# Altium schematic symbol library MCU_NXP_S08.SchLib: 189 symbols (part 3 of 4)
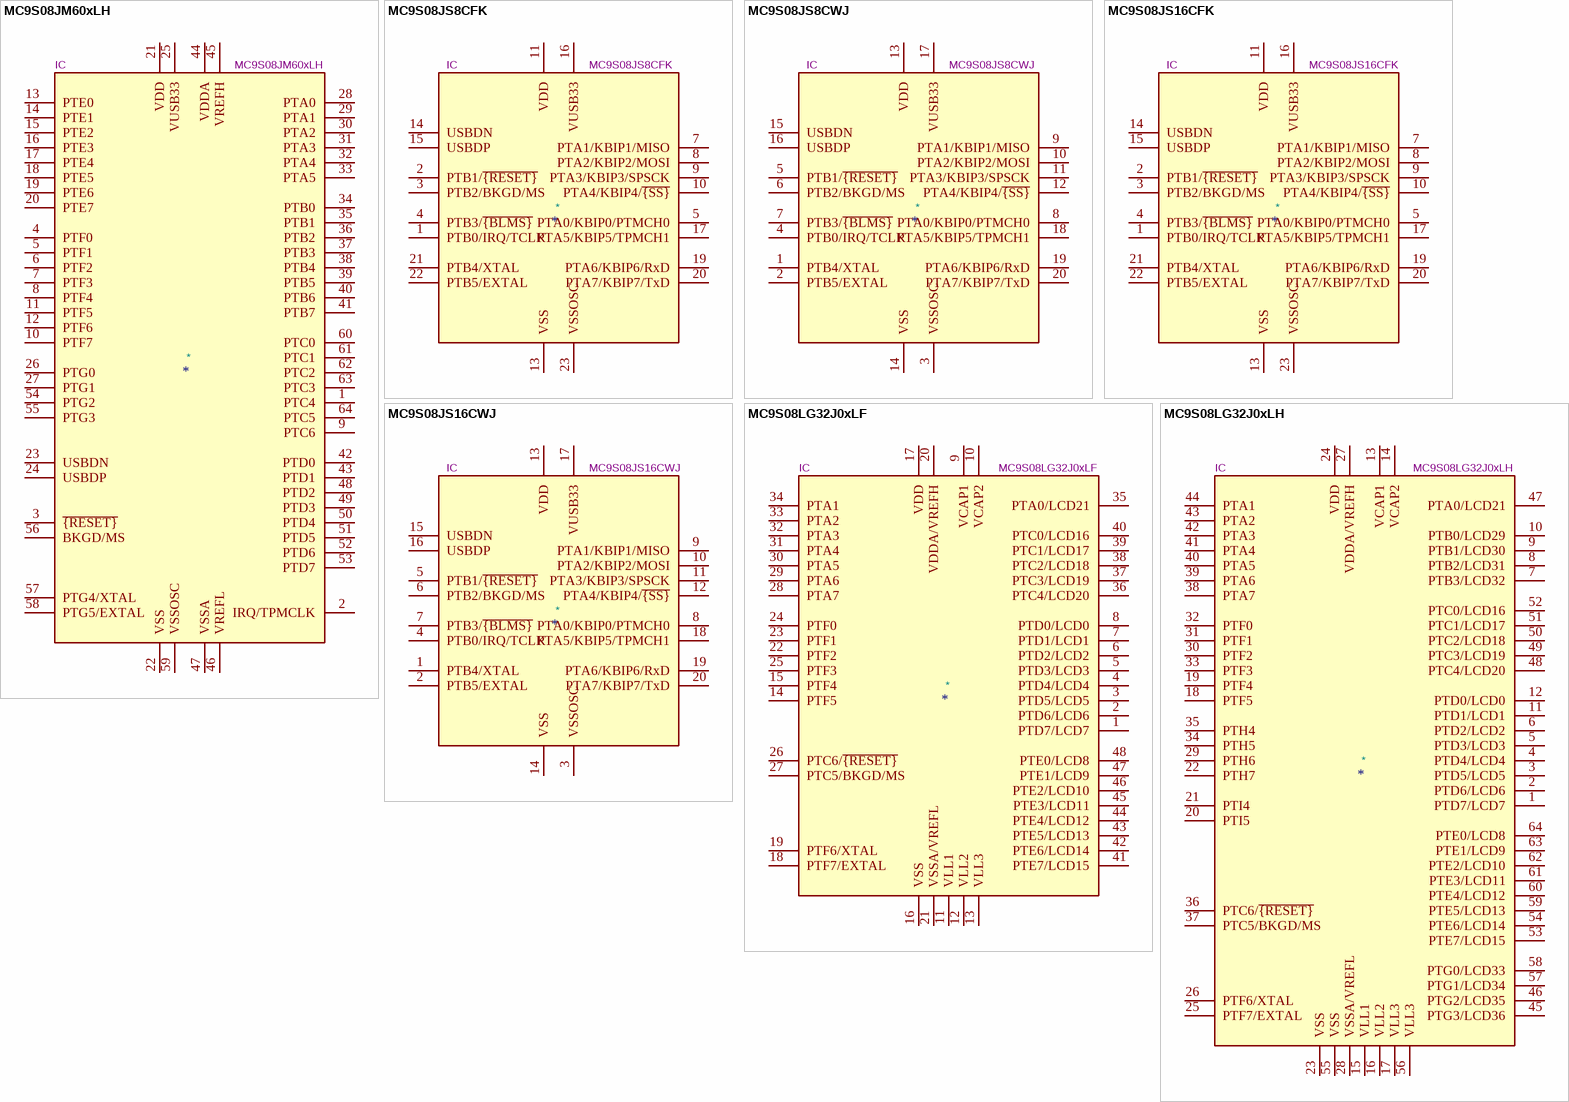
[diagram p21: symbols MC9S08JM60xLH to MC9S08LG32J0xLH]

## MC9S08LG32J0xLF
designator *  value MC9S08LG32J0xLF  Reference: IC
8-bit Segment LCD Microcontroller, S08 core, 32kB Flash, 1984B RAM, LQFP-48; ki_keywords: NXP S08 Microcontroller; ki_fp_filters: *LQFP*7x7mm*P0.5mm*; Footprint: Package_QFP:LQFP-48_7x7mm_P0.5mm; Datasheet: https://www.nxp.com/docs/en/data-sheet/MC9S08LG32.pdf; Description_: 8-bit Segment LCD Microcontroller, S08 core, 32kB Flash, 1984B RAM, LQFP-48
pins: 1 PTD7/LCD7, 2 PTD6/LCD6, 3 PTD5/LCD5, 4 PTD4/LCD4, 5 PTD3/LCD3, 6 PTD2/LCD2, 7 PTD1/LCD1, 8 PTD0/LCD0, 9 VCAP1, 10 VCAP2, 11 VLL1, 12 VLL2, 13 VLL3, 14 PTF5, 15 PTF4, 16 VSS, 17 VDD, 18 PTF7/EXTAL, 19 PTF6/XTAL, 20 VDDA/VREFH, 21 VSSA/VREFL, 22 PTF2, 23 PTF1, 24 PTF0, 25 PTF3, 26 PTC6/~{{RESET}}, 27 PTC5/BKGD/MS, 28 PTA7, 29 PTA6, 30 PTA5, 31 PTA4, 32 PTA3, 33 PTA2, 34 PTA1, 35 PTA0/LCD21, 36 PTC4/LCD20, 37 PTC3/LCD19, 38 PTC2/LCD18, 39 PTC1/LCD17, 40 PTC0/LCD16, 41 PTE7/LCD15, 42 PTE6/LCD14, 43 PTE5/LCD13, 44 PTE4/LCD12, 45 PTE3/LCD11, 46 PTE2/LCD10, 47 PTE1/LCD9, 48 PTE0/LCD8

## MC9S08LG32J0xLH
designator *  value MC9S08LG32J0xLH  Reference: IC
8-bit Segment LCD Microcontroller, S08 core, 32kB Flash, 1984B RAM, LQFP-64; ki_keywords: NXP S08 Microcontroller; ki_fp_filters: TQFP*10x10mm*P0.5mm*; Footprint: Package_QFP:TQFP-64_10x10mm_P0.5mm; Datasheet: https://www.nxp.com/files-static/microcontrollers/doc/ref_manual/MC9S08LG32RM.pdf; Description_: 8-bit Segment LCD Microcontroller, S08 core, 32kB Flash, 1984B RAM, LQFP-64
pins: 1 PTD7/LCD7, 2 PTD6/LCD6, 3 PTD5/LCD5, 4 PTD4/LCD4, 5 PTD3/LCD3, 6 PTD2/LCD2, 7 PTB3/LCD32, 8 PTB2/LCD31, 9 PTB1/LCD30, 10 PTB0/LCD29, 11 PTD1/LCD1, 12 PTD0/LCD0, 13 VCAP1, 14 VCAP2, 15 VLL1, 16 VLL2, 17 VLL3, 18 PTF5, 19 PTF4, 20 PTI5, 21 PTI4, 22 PTH7, 23 VSS, 24 VDD, 25 PTF7/EXTAL, 26 PTF6/XTAL, 27 VDDA/VREFH, 28 VSSA/VREFL, 29 PTH6, 30 PTF2, 31 PTF1, 32 PTF0, 33 PTF3, 34 PTH5, 35 PTH4, 36 PTC6/~{{RESET}}, 37 PTC5/BKGD/MS, 38 PTA7, 39 PTA6, 40 PTA5, 41 PTA4, 42 PTA3, 43 PTA2, 44 PTA1, 45 PTG3/LCD36, 46 PTG2/LCD35, 47 PTA0/LCD21, 48 PTC4/LCD20, 49 PTC3/LCD19, 50 PTC2/LCD18, 51 PTC1/LCD17, 52 PTC0/LCD16, 53 PTE7/LCD15, 54 PTE6/LCD14, 55 VSS, 56 VLL3, 57 PTG1/LCD34, 58 PTG0/LCD33, 59 PTE5/LCD13, 60 PTE4/LCD12, 61 PTE3/LCD11, 62 PTE2/LCD10, 63 PTE1/LCD9, 64 PTE0/LCD8

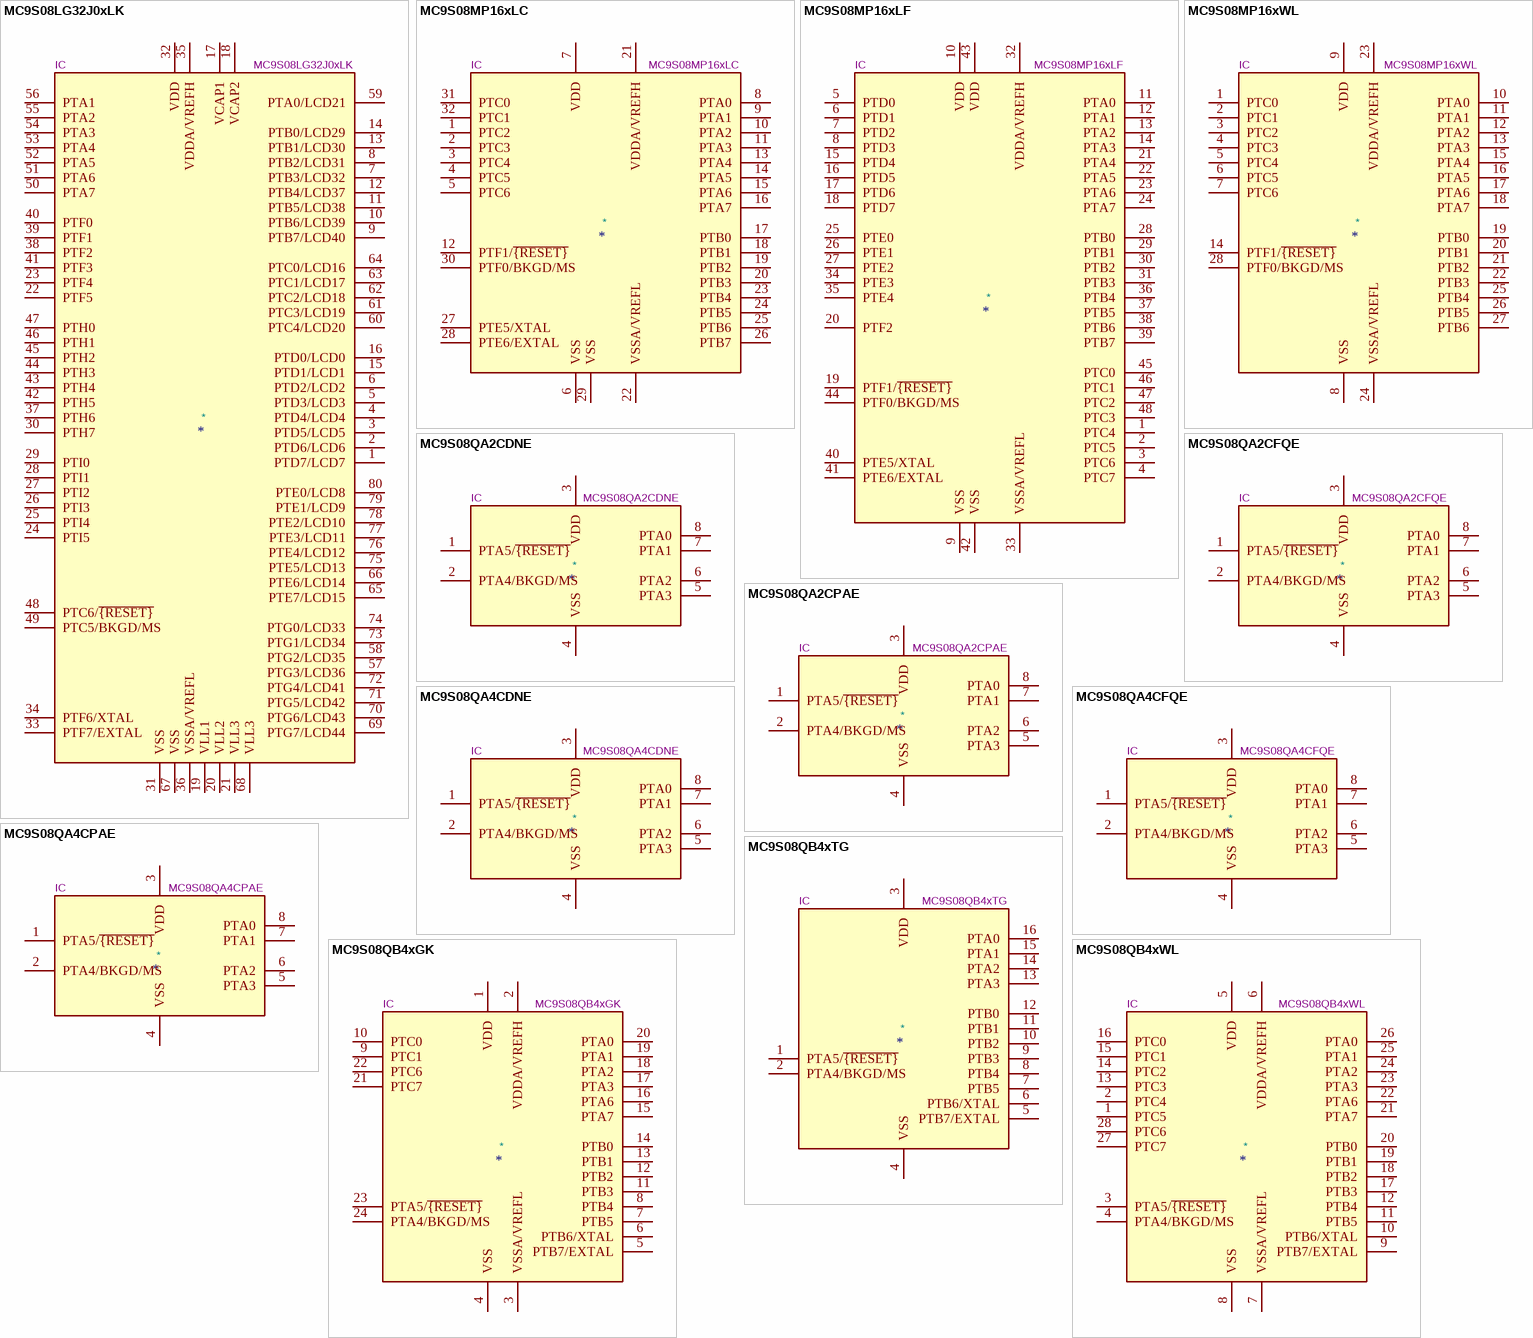
[diagram p14: symbols MC9S08LG32J0xLK to MC9S08QB4xWL]

## MC9S08LG32J0xLK
designator *  value MC9S08LG32J0xLK  Reference: IC
8-bit Segment LCD Microcontroller, S08 core, 32kB Flash, 1984B RAM, LQFP-80; ki_keywords: NXP S08 Microcontroller; ki_fp_filters: *LQFP*14x14mm*P0.65mm*; Footprint: Package_QFP:LQFP-80_14x14mm_P0.65mm; Datasheet: https://www.nxp.com/docs/en/data-sheet/MC9S08LG32.pdf; Description_: 8-bit Segment LCD Microcontroller, S08 core, 32kB Flash, 1984B RAM, LQFP-80
pins: 1 PTD7/LCD7, 2 PTD6/LCD6, 3 PTD5/LCD5, 4 PTD4/LCD4, 5 PTD3/LCD3, 6 PTD2/LCD2, 7 PTB3/LCD32, 8 PTB2/LCD31, 9 PTB7/LCD40, 10 PTB6/LCD39, 11 PTB5/LCD38, 12 PTB4/LCD37, 13 PTB1/LCD30, 14 PTB0/LCD29, 15 PTD1/LCD1, 16 PTD0/LCD0, 17 VCAP1, 18 VCAP2, 19 VLL1, 20 VLL2, 21 VLL3, 22 PTF5, 23 PTF4, 24 PTI5, 25 PTI4, 26 PTI3, 27 PTI2, 28 PTI1, 29 PTI0, 30 PTH7, 31 VSS, 32 VDD, 33 PTF7/EXTAL, 34 PTF6/XTAL, 35 VDDA/VREFH, 36 VSSA/VREFL, 37 PTH6, 38 PTF2, 39 PTF1, 40 PTF0, 41 PTF3, 42 PTH5, 43 PTH4, 44 PTH3, 45 PTH2, 46 PTH1, 47 PTH0, 48 PTC6/~{{RESET}}, 49 PTC5/BKGD/MS, 50 PTA7, 51 PTA6, 52 PTA5, 53 PTA4, 54 PTA3, 55 PTA2, 56 PTA1, 57 PTG3/LCD36, 58 PTG2/LCD35, 59 PTA0/LCD21, 60 PTC4/LCD20, 61 PTC3/LCD19, 62 PTC2/LCD18, 63 PTC1/LCD17, 64 PTC0/LCD16, 65 PTE7/LCD15, 66 PTE6/LCD14, 67 VSS, 68 VLL3, 69 PTG7/LCD44, 70 PTG6/LCD43, 71 PTG5/LCD42, 72 PTG4/LCD41, 73 PTG1/LCD34, 74 PTG0/LCD33, 75 PTE5/LCD13, 76 PTE4/LCD12, 77 PTE3/LCD11, 78 PTE2/LCD10, 79 PTE1/LCD9, 80 PTE0/LCD8

## MC9S08MP16xLC
designator *  value MC9S08MP16xLC  Reference: IC
8-bit General Purpose Microcontroller, S08 core, 16kB Flash, 1kB RAM, LQFP-32; ki_keywords: NXP S08 Microcontroller; ki_fp_filters: LQFP*7x7mm*P0.8mm*; Footprint: Package_QFP:LQFP-32_7x7mm_P0.8mm; Datasheet: https://www.nxp.com/docs/en/reference-manual/MC9S08MP16RM.pdf; Description_: 8-bit General Purpose Microcontroller, S08 core, 16kB Flash, 1kB RAM, LQFP-32
pins: 1 PTC2, 2 PTC3, 3 PTC4, 4 PTC5, 5 PTC6, 6 VSS, 7 VDD, 8 PTA0, 9 PTA1, 10 PTA2, 11 PTA3, 12 PTF1/~{{RESET}}, 13 PTA4, 14 PTA5, 15 PTA6, 16 PTA7, 17 PTB0, 18 PTB1, 19 PTB2, 20 PTB3, 21 VDDA/VREFH, 22 VSSA/VREFL, 23 PTB4, 24 PTB5, 25 PTB6, 26 PTB7, 27 PTE5/XTAL, 28 PTE6/EXTAL, 29 VSS, 30 PTF0/BKGD/MS, 31 PTC0, 32 PTC1

## MC9S08MP16xLF
designator *  value MC9S08MP16xLF  Reference: IC
8-bit General Purpose Microcontroller, S08 core, 16kB Flash, 1kB RAM, LQFP-48; ki_keywords: NXP S08 Microcontroller; ki_fp_filters: LQFP*7x7mm*P0.5mm*; Footprint: Package_QFP:LQFP-48_7x7mm_P0.5mm; Datasheet: https://www.nxp.com/docs/en/reference-manual/MC9S08MP16RM.pdf; Description_: 8-bit General Purpose Microcontroller, S08 core, 16kB Flash, 1kB RAM, LQFP-48
pins: 1 PTC4, 2 PTC5, 3 PTC6, 4 PTC7, 5 PTD0, 6 PTD1, 7 PTD2, 8 PTD3, 9 VSS, 10 VDD, 11 PTA0, 12 PTA1, 13 PTA2, 14 PTA3, 15 PTD4, 16 PTD5, 17 PTD6, 18 PTD7, 19 PTF1/~{{RESET}}, 20 PTF2, 21 PTA4, 22 PTA5, 23 PTA6, 24 PTA7, 25 PTE0, 26 PTE1, 27 PTE2, 28 PTB0, 29 PTB1, 30 PTB2, 31 PTB3, 32 VDDA/VREFH, 33 VSSA/VREFL, 34 PTE3, 35 PTE4, 36 PTB4, 37 PTB5, 38 PTB6, 39 PTB7, 40 PTE5/XTAL, 41 PTE6/EXTAL, 42 VSS, 43 VDD, 44 PTF0/BKGD/MS, 45 PTC0, 46 PTC1, 47 PTC2, 48 PTC3

## MC9S08MP16xWL
designator *  value MC9S08MP16xWL  Reference: IC
8-bit General Purpose Microcontroller, S08 core, 16kB Flash, 1kB RAM, SOIC-28; ki_keywords: NXP S08 Microcontroller; ki_fp_filters: SOIC*7.5x17.9mm*P1.27mm*; Footprint: Package_SO:SOIC-28W_7.5x17.9mm_P1.27mm; Datasheet: https://www.nxp.com/docs/en/reference-manual/MC9S08MP16RM.pdf; Description_: 8-bit General Purpose Microcontroller, S08 core, 16kB Flash, 1kB RAM, SOIC-28
pins: 1 PTC0, 2 PTC1, 3 PTC2, 4 PTC3, 5 PTC4, 6 PTC5, 7 PTC6, 8 VSS, 9 VDD, 10 PTA0, 11 PTA1, 12 PTA2, 13 PTA3, 14 PTF1/~{{RESET}}, 15 PTA4, 16 PTA5, 17 PTA6, 18 PTA7, 19 PTB0, 20 PTB1, 21 PTB2, 22 PTB3, 23 VDDA/VREFH, 24 VSSA/VREFL, 25 PTB4, 26 PTB5, 27 PTB6, 28 PTF0/BKGD/MS

## MC9S08QA2CDNE
designator *  value MC9S08QA2CDNE  Reference: IC
8-bit Small Package Microcontroller, S08 core, 2kB Flash, 160B RAM, SOIC-8; ki_keywords: NXP S08 Microcontroller; ki_fp_filters: SOIC*3.9x4.9mm*P1.27mm*; Footprint: Package_SO:SOIC-8_3.9x4.9mm_P1.27mm; Datasheet: https://www.nxp.com/docs/en/reference-manual/MC9S08QA4RM.pdf; Description_: 8-bit Small Package Microcontroller, S08 core, 2kB Flash, 160B RAM, SOIC-8
pins: 1 PTA5/~{{RESET}}, 2 PTA4/BKGD/MS, 3 VDD, 4 VSS, 5 PTA3, 6 PTA2, 7 PTA1, 8 PTA0

## MC9S08QA2CFQE
designator *  value MC9S08QA2CFQE  Reference: IC
8-bit Small Package Microcontroller, S08 core, 2kB Flash, 160B RAM, DFN-8; ki_keywords: NXP S08 Microcontroller; ki_fp_filters: DFN*4x4mm*P0.8mm*; Footprint: Package_DFN_QFN:DFN-8-1EP_4x4mm_P0.8mm_EP2.5x3.6mm; Datasheet: https://www.nxp.com/docs/en/reference-manual/MC9S08QA4RM.pdf; Description_: 8-bit Small Package Microcontroller, S08 core, 2kB Flash, 160B RAM, DFN-8
pins: 1 PTA5/~{{RESET}}, 2 PTA4/BKGD/MS, 3 VDD, 4 VSS, 5 PTA3, 6 PTA2, 7 PTA1, 8 PTA0

## MC9S08QA2CPAE
designator *  value MC9S08QA2CPAE  Reference: IC
8-bit Small Package Microcontroller, S08 core, 2kB Flash, 160B RAM, DIP-8; ki_keywords: NXP S08 Microcontroller; ki_fp_filters: DIP*7.62mm*; Footprint: Package_DIP:DIP-8_W7.62mm; Datasheet: https://www.nxp.com/docs/en/reference-manual/MC9S08QA4RM.pdf; Description_: 8-bit Small Package Microcontroller, S08 core, 2kB Flash, 160B RAM, DIP-8
pins: 1 PTA5/~{{RESET}}, 2 PTA4/BKGD/MS, 3 VDD, 4 VSS, 5 PTA3, 6 PTA2, 7 PTA1, 8 PTA0

## MC9S08QA4CDNE
designator *  value MC9S08QA4CDNE  Reference: IC
8-bit Small Package Microcontroller, S08 core, 4kB Flash, 256B RAM, SOIC-8; ki_keywords: NXP S08 Microcontroller; ki_fp_filters: SOIC*3.9x4.9mm*P1.27mm*; Footprint: Package_SO:SOIC-8_3.9x4.9mm_P1.27mm; Datasheet: https://www.nxp.com/docs/en/reference-manual/MC9S08QA4RM.pdf; Description_: 8-bit Small Package Microcontroller, S08 core, 4kB Flash, 256B RAM, SOIC-8
pins: 1 PTA5/~{{RESET}}, 2 PTA4/BKGD/MS, 3 VDD, 4 VSS, 5 PTA3, 6 PTA2, 7 PTA1, 8 PTA0

## MC9S08QA4CFQE
designator *  value MC9S08QA4CFQE  Reference: IC
8-bit Small Package Microcontroller, S08 core, 4kB Flash, 256B RAM, DFN-8; ki_keywords: NXP S08 Microcontroller; ki_fp_filters: DFN*4x4mm*P0.8mm*; Footprint: Package_DFN_QFN:DFN-8-1EP_4x4mm_P0.8mm_EP2.5x3.6mm; Datasheet: https://www.nxp.com/docs/en/reference-manual/MC9S08QA4RM.pdf; Description_: 8-bit Small Package Microcontroller, S08 core, 4kB Flash, 256B RAM, DFN-8
pins: 1 PTA5/~{{RESET}}, 2 PTA4/BKGD/MS, 3 VDD, 4 VSS, 5 PTA3, 6 PTA2, 7 PTA1, 8 PTA0

## MC9S08QA4CPAE
designator *  value MC9S08QA4CPAE  Reference: IC
8-bit Small Package Microcontroller, S08 core, 4kB Flash, 256B RAM, DIP-8; ki_keywords: NXP S08 Microcontroller; ki_fp_filters: DIP*7.62mm*; Footprint: Package_DIP:DIP-8_W7.62mm; Datasheet: https://www.nxp.com/docs/en/reference-manual/MC9S08QA4RM.pdf; Description_: 8-bit Small Package Microcontroller, S08 core, 4kB Flash, 256B RAM, DIP-8
pins: 1 PTA5/~{{RESET}}, 2 PTA4/BKGD/MS, 3 VDD, 4 VSS, 5 PTA3, 6 PTA2, 7 PTA1, 8 PTA0

## MC9S08QB4xGK
designator *  value MC9S08QB4xGK  Reference: IC
8-bit General Purpose Microcontroller, S08 core, 4kB Flash, 256B RAM, QFN-24; ki_keywords: NXP S08 Microcontroller; ki_fp_filters: QFN*1EP*5x5mm*P0.65mm*; Footprint: Package_DFN_QFN:QFN-24-1EP_5x5mm_P0.65mm_EP3.6x3.6mm; Datasheet: https://www.nxp.com/docs/en/reference-manual/MC9S08QB8RM.pdf; Description_: 8-bit General Purpose Microcontroller, S08 core, 4kB Flash, 256B RAM, QFN-24
pins: 1 VDD, 2 VDDA/VREFH, 3 VSSA/VREFL, 4 VSS, 5 PTB7/EXTAL, 6 PTB6/XTAL, 7 PTB5, 8 PTB4, 9 PTC1, 10 PTC0, 11 PTB3, 12 PTB2, 13 PTB1, 14 PTB0, 15 PTA7, 16 PTA6, 17 PTA3, 18 PTA2, 19 PTA1, 20 PTA0, 21 PTC7, 22 PTC6, 23 PTA5/~{{RESET}}, 24 PTA4/BKGD/MS

## MC9S08QB4xTG
designator *  value MC9S08QB4xTG  Reference: IC
8-bit General Purpose Microcontroller, S08 core, 4kB Flash, 256B RAM, TSSOP-16; ki_keywords: NXP S08 Microcontroller; ki_fp_filters: TSSOP*4.4x5mm*P0.65mm*; Footprint: Package_SO:TSSOP-16_4.4x5mm_P0.65mm; Datasheet: https://www.nxp.com/docs/en/reference-manual/MC9S08QB8RM.pdf; Description_: 8-bit General Purpose Microcontroller, S08 core, 4kB Flash, 256B RAM, TSSOP-16
pins: 1 PTA5/~{{RESET}}, 2 PTA4/BKGD/MS, 3 VDD, 4 VSS, 5 PTB7/EXTAL, 6 PTB6/XTAL, 7 PTB5, 8 PTB4, 9 PTB3, 10 PTB2, 11 PTB1, 12 PTB0, 13 PTA3, 14 PTA2, 15 PTA1, 16 PTA0

## MC9S08QB4xWL
designator *  value MC9S08QB4xWL  Reference: IC
8-bit General Purpose Microcontroller, S08 core, 4kB Flash, 256B RAM, SOIC-28; ki_keywords: NXP S08 Microcontroller; ki_fp_filters: SOIC*7.5x17.9mm*P1.27mm*; Footprint: Package_SO:SOIC-28W_7.5x17.9mm_P1.27mm; Datasheet: https://www.nxp.com/docs/en/reference-manual/MC9S08QB8RM.pdf; Description_: 8-bit General Purpose Microcontroller, S08 core, 4kB Flash, 256B RAM, SOIC-28
pins: 1 PTC5, 2 PTC4, 3 PTA5/~{{RESET}}, 4 PTA4/BKGD/MS, 5 VDD, 6 VDDA/VREFH, 7 VSSA/VREFL, 8 VSS, 9 PTB7/EXTAL, 10 PTB6/XTAL, 11 PTB5, 12 PTB4, 13 PTC3, 14 PTC2, 15 PTC1, 16 PTC0, 17 PTB3, 18 PTB2, 19 PTB1, 20 PTB0, 21 PTA7, 22 PTA6, 23 PTA3, 24 PTA2, 25 PTA1, 26 PTA0, 27 PTC7, 28 PTC6

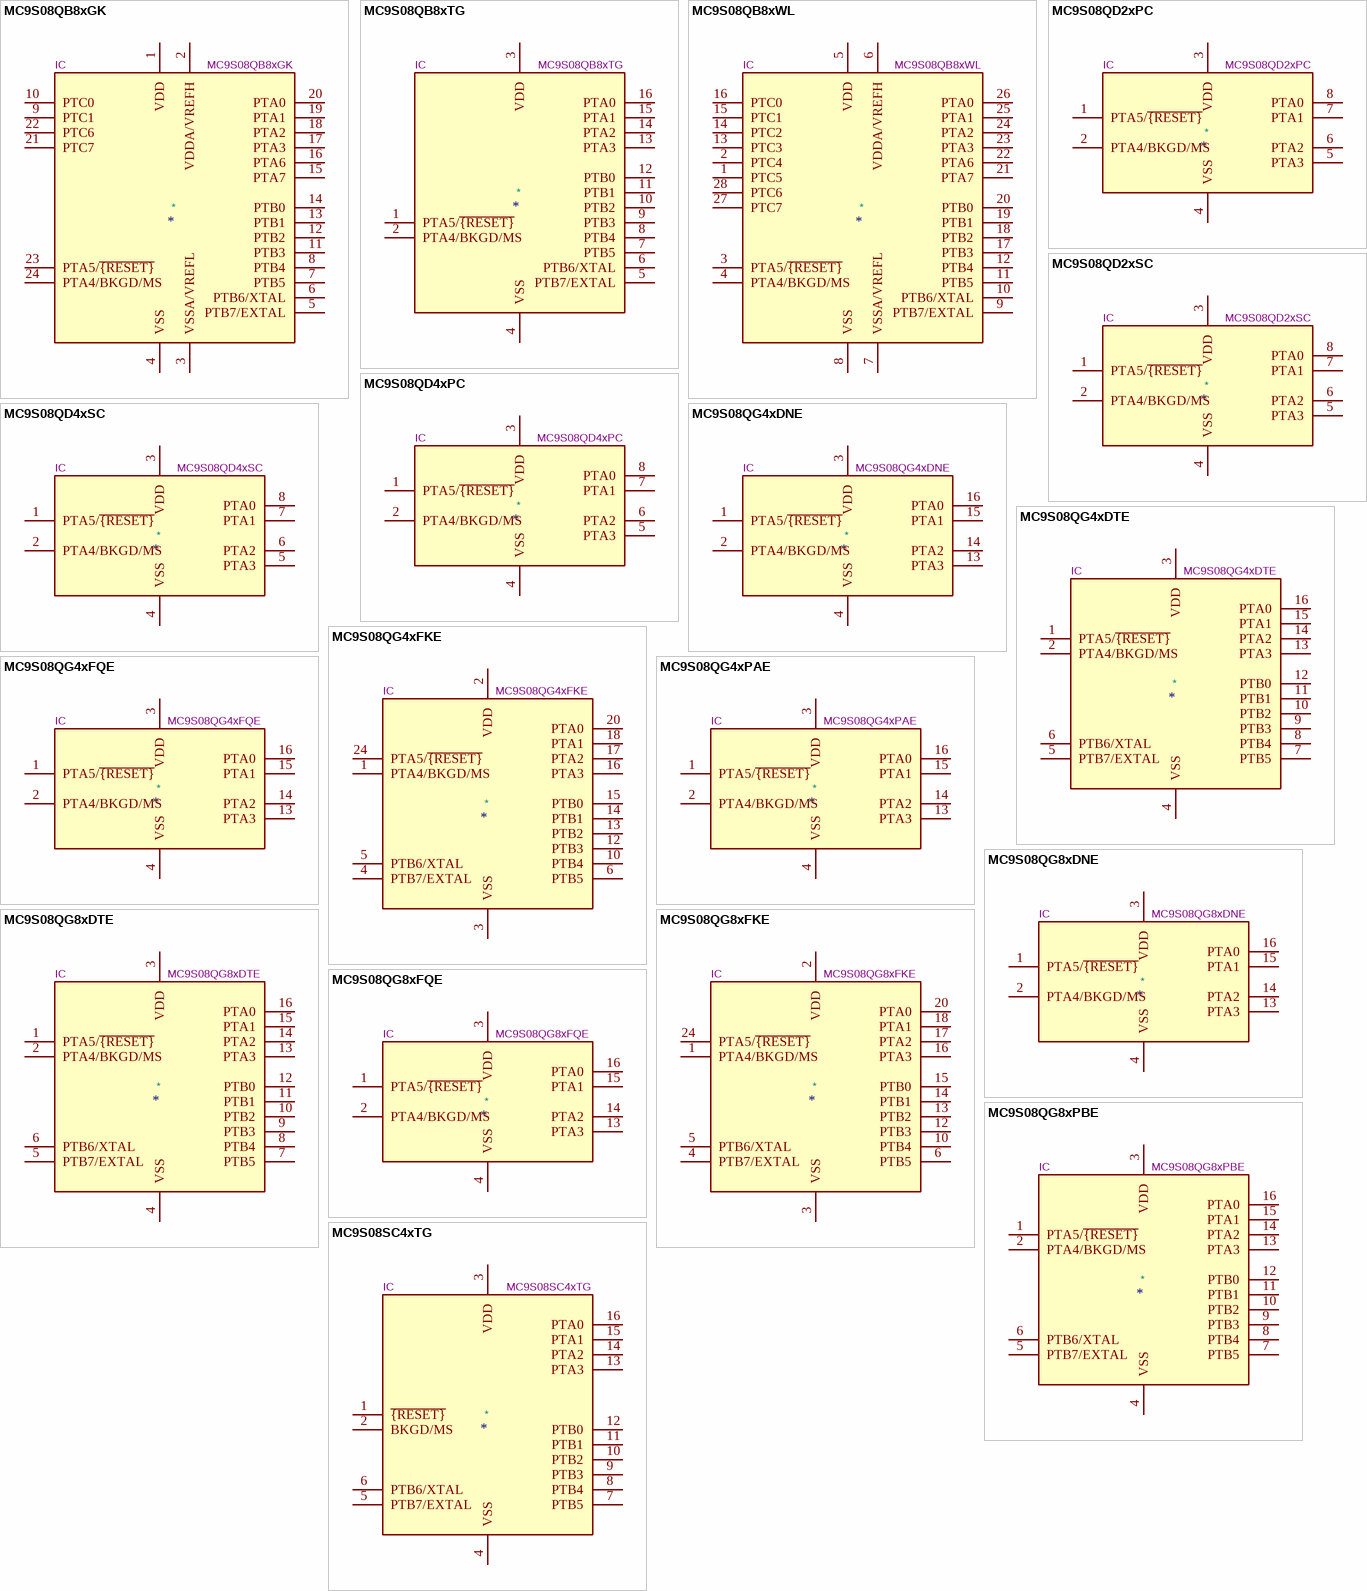
[diagram p15: symbols MC9S08QB8xGK to MC9S08SC4xTG]

## MC9S08QB8xGK
designator *  value MC9S08QB8xGK  Reference: IC
8-bit General Purpose Microcontroller, S08 core, 8kB Flash, 512B RAM, QFN-24; ki_keywords: NXP S08 Microcontroller; ki_fp_filters: QFN*1EP*5x5mm*P0.65mm*; Footprint: Package_DFN_QFN:QFN-24-1EP_5x5mm_P0.65mm_EP3.6x3.6mm; Datasheet: https://www.nxp.com/docs/en/reference-manual/MC9S08QB8RM.pdf; Description_: 8-bit General Purpose Microcontroller, S08 core, 8kB Flash, 512B RAM, QFN-24
pins: 1 VDD, 2 VDDA/VREFH, 3 VSSA/VREFL, 4 VSS, 5 PTB7/EXTAL, 6 PTB6/XTAL, 7 PTB5, 8 PTB4, 9 PTC1, 10 PTC0, 11 PTB3, 12 PTB2, 13 PTB1, 14 PTB0, 15 PTA7, 16 PTA6, 17 PTA3, 18 PTA2, 19 PTA1, 20 PTA0, 21 PTC7, 22 PTC6, 23 PTA5/~{{RESET}}, 24 PTA4/BKGD/MS

## MC9S08QB8xTG
designator *  value MC9S08QB8xTG  Reference: IC
8-bit General Purpose Microcontroller, S08 core, 8kB Flash, 512B RAM, TSSOP-16; ki_keywords: NXP S08 Microcontroller; ki_fp_filters: TSSOP*4.4x5mm*P0.65mm*; Footprint: Package_SO:TSSOP-16_4.4x5mm_P0.65mm; Datasheet: https://www.nxp.com/docs/en/reference-manual/MC9S08QB8RM.pdf; Description_: 8-bit General Purpose Microcontroller, S08 core, 8kB Flash, 512B RAM, TSSOP-16
pins: 1 PTA5/~{{RESET}}, 2 PTA4/BKGD/MS, 3 VDD, 4 VSS, 5 PTB7/EXTAL, 6 PTB6/XTAL, 7 PTB5, 8 PTB4, 9 PTB3, 10 PTB2, 11 PTB1, 12 PTB0, 13 PTA3, 14 PTA2, 15 PTA1, 16 PTA0

## MC9S08QB8xWL
designator *  value MC9S08QB8xWL  Reference: IC
8-bit General Purpose Microcontroller, S08 core, 8kB Flash, 512B RAM, SOIC-28; ki_keywords: NXP S08 Microcontroller; ki_fp_filters: SOIC*7.5x17.9mm*P1.27mm*; Footprint: Package_SO:SOIC-28W_7.5x17.9mm_P1.27mm; Datasheet: https://www.nxp.com/docs/en/reference-manual/MC9S08QB8RM.pdf; Description_: 8-bit General Purpose Microcontroller, S08 core, 8kB Flash, 512B RAM, SOIC-28
pins: 1 PTC5, 2 PTC4, 3 PTA5/~{{RESET}}, 4 PTA4/BKGD/MS, 5 VDD, 6 VDDA/VREFH, 7 VSSA/VREFL, 8 VSS, 9 PTB7/EXTAL, 10 PTB6/XTAL, 11 PTB5, 12 PTB4, 13 PTC3, 14 PTC2, 15 PTC1, 16 PTC0, 17 PTB3, 18 PTB2, 19 PTB1, 20 PTB0, 21 PTA7, 22 PTA6, 23 PTA3, 24 PTA2, 25 PTA1, 26 PTA0, 27 PTC7, 28 PTC6

## MC9S08QD2xPC
designator *  value MC9S08QD2xPC  Reference: IC
8-bit Small Package Microcontroller, S08 core, 2kB Flash, 128B RAM, DIP-8; ki_keywords: NXP S08 Microcontroller; ki_fp_filters: DIP*7.62mm*; Footprint: Package_DIP:DIP-8_W7.62mm; Datasheet: https://www.nxp.com/docs/en/data-sheet/MC9S08QD4.pdf; Description_: 8-bit Small Package Microcontroller, S08 core, 2kB Flash, 128B RAM, DIP-8
pins: 1 PTA5/~{{RESET}}, 2 PTA4/BKGD/MS, 3 VDD, 4 VSS, 5 PTA3, 6 PTA2, 7 PTA1, 8 PTA0

## MC9S08QD2xSC
designator *  value MC9S08QD2xSC  Reference: IC
8-bit Small Package Microcontroller, S08 core, 2kB Flash, 128B RAM, SOIC-8; ki_keywords: NXP S08 Microcontroller; ki_fp_filters: SOIC*3.9x4.9mm*P1.27mm*; Footprint: Package_SO:SOIC-8_3.9x4.9mm_P1.27mm; Datasheet: https://www.nxp.com/docs/en/data-sheet/MC9S08QD4.pdf; Description_: 8-bit Small Package Microcontroller, S08 core, 2kB Flash, 128B RAM, SOIC-8
pins: 1 PTA5/~{{RESET}}, 2 PTA4/BKGD/MS, 3 VDD, 4 VSS, 5 PTA3, 6 PTA2, 7 PTA1, 8 PTA0

## MC9S08QD4xPC
designator *  value MC9S08QD4xPC  Reference: IC
8-bit Small Package Microcontroller, S08 core, 4kB Flash, 256B RAM, DIP-8; ki_keywords: NXP S08 Microcontroller; ki_fp_filters: DIP*7.62mm*; Footprint: Package_DIP:DIP-8_W7.62mm; Datasheet: https://www.nxp.com/docs/en/data-sheet/MC9S08QD4.pdf; Description_: 8-bit Small Package Microcontroller, S08 core, 4kB Flash, 256B RAM, DIP-8
pins: 1 PTA5/~{{RESET}}, 2 PTA4/BKGD/MS, 3 VDD, 4 VSS, 5 PTA3, 6 PTA2, 7 PTA1, 8 PTA0

## MC9S08QD4xSC
designator *  value MC9S08QD4xSC  Reference: IC
8-bit Small Package Microcontroller, S08 core, 4kB Flash, 256B RAM, SOIC-8; ki_keywords: NXP S08 Microcontroller; ki_fp_filters: SOIC*3.9x4.9mm*P1.27mm*; Footprint: Package_SO:SOIC-8_3.9x4.9mm_P1.27mm; Datasheet: https://www.nxp.com/docs/en/data-sheet/MC9S08QD4.pdf; Description_: 8-bit Small Package Microcontroller, S08 core, 4kB Flash, 256B RAM, SOIC-8
pins: 1 PTA5/~{{RESET}}, 2 PTA4/BKGD/MS, 3 VDD, 4 VSS, 5 PTA3, 6 PTA2, 7 PTA1, 8 PTA0

## MC9S08QG4xDNE
designator *  value MC9S08QG4xDNE  Reference: IC
8-bit Small Package Microcontroller, S08 core, 4kB Flash, 256B RAM, SOIC-8; ki_keywords: NXP S08 Microcontroller; ki_fp_filters: SOIC*3.9x4.9mm*P1.27mm*; Footprint: Package_SO:SOIC-8_3.9x4.9mm_P1.27mm; Datasheet: https://www.nxp.com/docs/en/data-sheet/MC9S08QG8.pdf; Description_: 8-bit Small Package Microcontroller, S08 core, 4kB Flash, 256B RAM, SOIC-8
pins: 1 PTA5/~{{RESET}}, 2 PTA4/BKGD/MS, 3 VDD, 4 VSS, 13 PTA3, 14 PTA2, 15 PTA1, 16 PTA0

## MC9S08QG4xDTE
designator *  value MC9S08QG4xDTE  Reference: IC
8-bit Small Package Microcontroller, S08 core, 4kB Flash, 256B RAM, TSSOP-16; ki_keywords: NXP S08 Microcontroller; ki_fp_filters: TSSOP*4.4x5mm*P0.65mm*; Footprint: Package_SO:TSSOP-16_4.4x5mm_P0.65mm; Datasheet: https://www.nxp.com/docs/en/data-sheet/MC9S08QG8.pdf; Description_: 8-bit Small Package Microcontroller, S08 core, 4kB Flash, 256B RAM, TSSOP-16
pins: 1 PTA5/~{{RESET}}, 2 PTA4/BKGD/MS, 3 VDD, 4 VSS, 5 PTB7/EXTAL, 6 PTB6/XTAL, 7 PTB5, 8 PTB4, 9 PTB3, 10 PTB2, 11 PTB1, 12 PTB0, 13 PTA3, 14 PTA2, 15 PTA1, 16 PTA0

## MC9S08QG4xFKE
designator *  value MC9S08QG4xFKE  Reference: IC
8-bit Small Package Microcontroller, S08 core, 4kB Flash, 256B RAM, QFN-24; ki_keywords: NXP S08 Microcontroller; ki_fp_filters: QFN*4x4mm*P0.5mm*; Footprint: Package_DFN_QFN:QFN-24-1EP_4x4mm_P0.5mm_EP2.6x2.6mm; Datasheet: https://www.nxp.com/docs/en/data-sheet/MC9S08QG8.pdf; Description_: 8-bit Small Package Microcontroller, S08 core, 4kB Flash, 256B RAM, QFN-24
pins: 1 PTA4/BKGD/MS, 2 VDD, 3 VSS, 4 PTB7/EXTAL, 5 PTB6/XTAL, 6 PTB5, 10 PTB4, 12 PTB3, 13 PTB2, 14 PTB1, 15 PTB0, 16 PTA3, 17 PTA2, 18 PTA1, 20 PTA0, 24 PTA5/~{{RESET}}

## MC9S08QG4xFQE
designator *  value MC9S08QG4xFQE  Reference: IC
8-bit Small Package Microcontroller, S08 core, 4kB Flash, 256B RAM, DFN-8; ki_keywords: NXP S08 Microcontroller; ki_fp_filters: DFN*4x4mm*P0.8mm*; Footprint: Package_DFN_QFN:DFN-8-1EP_4x4mm_P0.8mm_EP2.5x3.6mm; Datasheet: https://www.nxp.com/docs/en/data-sheet/MC9S08QG8.pdf; Description_: 8-bit Small Package Microcontroller, S08 core, 4kB Flash, 256B RAM, DFN-8
pins: 1 PTA5/~{{RESET}}, 2 PTA4/BKGD/MS, 3 VDD, 4 VSS, 13 PTA3, 14 PTA2, 15 PTA1, 16 PTA0

## MC9S08QG4xPAE
designator *  value MC9S08QG4xPAE  Reference: IC
8-bit Small Package Microcontroller, S08 core, 4kB Flash, 256B RAM, DIP-8; ki_keywords: NXP S08 Microcontroller; ki_fp_filters: DIP*7.62mm*; Footprint: Package_DIP:DIP-8_W7.62mm; Datasheet: https://www.nxp.com/docs/en/data-sheet/MC9S08QG8.pdf; Description_: 8-bit Small Package Microcontroller, S08 core, 4kB Flash, 256B RAM, DIP-8
pins: 1 PTA5/~{{RESET}}, 2 PTA4/BKGD/MS, 3 VDD, 4 VSS, 13 PTA3, 14 PTA2, 15 PTA1, 16 PTA0

## MC9S08QG8xDNE
designator *  value MC9S08QG8xDNE  Reference: IC
8-bit Small Package Microcontroller, S08 core, 8kB Flash, 512B RAM, SOIC-8; ki_keywords: NXP S08 Microcontroller; ki_fp_filters: SOIC*3.9x4.9mm*P1.27mm*; Footprint: Package_SO:SOIC-8_3.9x4.9mm_P1.27mm; Datasheet: https://www.nxp.com/docs/en/data-sheet/MC9S08QG8.pdf; Description_: 8-bit Small Package Microcontroller, S08 core, 8kB Flash, 512B RAM, SOIC-8
pins: 1 PTA5/~{{RESET}}, 2 PTA4/BKGD/MS, 3 VDD, 4 VSS, 13 PTA3, 14 PTA2, 15 PTA1, 16 PTA0

## MC9S08QG8xDTE
designator *  value MC9S08QG8xDTE  Reference: IC
8-bit Small Package Microcontroller, S08 core, 8kB Flash, 512B RAM, TSSOP-16; ki_keywords: NXP S08 Microcontroller; ki_fp_filters: TSSOP*4.4x5mm*P0.65mm*; Footprint: Package_SO:TSSOP-16_4.4x5mm_P0.65mm; Datasheet: https://www.nxp.com/docs/en/data-sheet/MC9S08QG8.pdf; Description_: 8-bit Small Package Microcontroller, S08 core, 8kB Flash, 512B RAM, TSSOP-16
pins: 1 PTA5/~{{RESET}}, 2 PTA4/BKGD/MS, 3 VDD, 4 VSS, 5 PTB7/EXTAL, 6 PTB6/XTAL, 7 PTB5, 8 PTB4, 9 PTB3, 10 PTB2, 11 PTB1, 12 PTB0, 13 PTA3, 14 PTA2, 15 PTA1, 16 PTA0

## MC9S08QG8xFKE
designator *  value MC9S08QG8xFKE  Reference: IC
8-bit Small Package Microcontroller, S08 core, 8kB Flash, 512B RAM, QFN-24; ki_keywords: NXP S08 Microcontroller; ki_fp_filters: QFN*4x4mm*P0.5mm*; Footprint: Package_DFN_QFN:QFN-24-1EP_4x4mm_P0.5mm_EP2.6x2.6mm; Datasheet: https://www.nxp.com/docs/en/data-sheet/MC9S08QG8.pdf; Description_: 8-bit Small Package Microcontroller, S08 core, 8kB Flash, 512B RAM, QFN-24
pins: 1 PTA4/BKGD/MS, 2 VDD, 3 VSS, 4 PTB7/EXTAL, 5 PTB6/XTAL, 6 PTB5, 10 PTB4, 12 PTB3, 13 PTB2, 14 PTB1, 15 PTB0, 16 PTA3, 17 PTA2, 18 PTA1, 20 PTA0, 24 PTA5/~{{RESET}}

## MC9S08QG8xFQE
designator *  value MC9S08QG8xFQE  Reference: IC
8-bit Small Package Microcontroller, S08 core, 8kB Flash, 512B RAM, DFN-8; ki_keywords: NXP S08 Microcontroller; ki_fp_filters: DFN*4x4mm*P0.8mm*; Footprint: Package_DFN_QFN:DFN-8-1EP_4x4mm_P0.8mm_EP2.5x3.6mm; Datasheet: https://www.nxp.com/docs/en/data-sheet/MC9S08QG8.pdf; Description_: 8-bit Small Package Microcontroller, S08 core, 8kB Flash, 512B RAM, DFN-8
pins: 1 PTA5/~{{RESET}}, 2 PTA4/BKGD/MS, 3 VDD, 4 VSS, 13 PTA3, 14 PTA2, 15 PTA1, 16 PTA0

## MC9S08QG8xPBE
designator *  value MC9S08QG8xPBE  Reference: IC
8-bit Small Package Microcontroller, S08 core, 8kB Flash, 512B RAM, DIP-16; ki_keywords: NXP S08 Microcontroller; ki_fp_filters: DIP*7.62mm*; Footprint: Package_DIP:DIP-16_W7.62mm; Datasheet: https://www.nxp.com/docs/en/data-sheet/MC9S08QG8.pdf; Description_: 8-bit Small Package Microcontroller, S08 core, 8kB Flash, 512B RAM, DIP-16
pins: 1 PTA5/~{{RESET}}, 2 PTA4/BKGD/MS, 3 VDD, 4 VSS, 5 PTB7/EXTAL, 6 PTB6/XTAL, 7 PTB5, 8 PTB4, 9 PTB3, 10 PTB2, 11 PTB1, 12 PTB0, 13 PTA3, 14 PTA2, 15 PTA1, 16 PTA0

## MC9S08SC4xTG
designator *  value MC9S08SC4xTG  Reference: IC
8-bit Small Package Microcontroller, S08 core, 4kB Flash, 256B RAM, TSSOP-16; ki_keywords: NXP S08 Microcontroller; ki_fp_filters: TSSOP*4.4x5mm*P0.65mm*; Footprint: Package_SO:TSSOP-16_4.4x5mm_P0.65mm; Datasheet: https://www.nxp.com/docs/en/data-sheet/MC9S08SC4.pdf; Description_: 8-bit Small Package Microcontroller, S08 core, 4kB Flash, 256B RAM, TSSOP-16
pins: 1 ~{{RESET}}, 2 BKGD/MS, 3 VDD, 4 VSS, 5 PTB7/EXTAL, 6 PTB6/XTAL, 7 PTB5, 8 PTB4, 9 PTB3, 10 PTB2, 11 PTB1, 12 PTB0, 13 PTA3, 14 PTA2, 15 PTA1, 16 PTA0

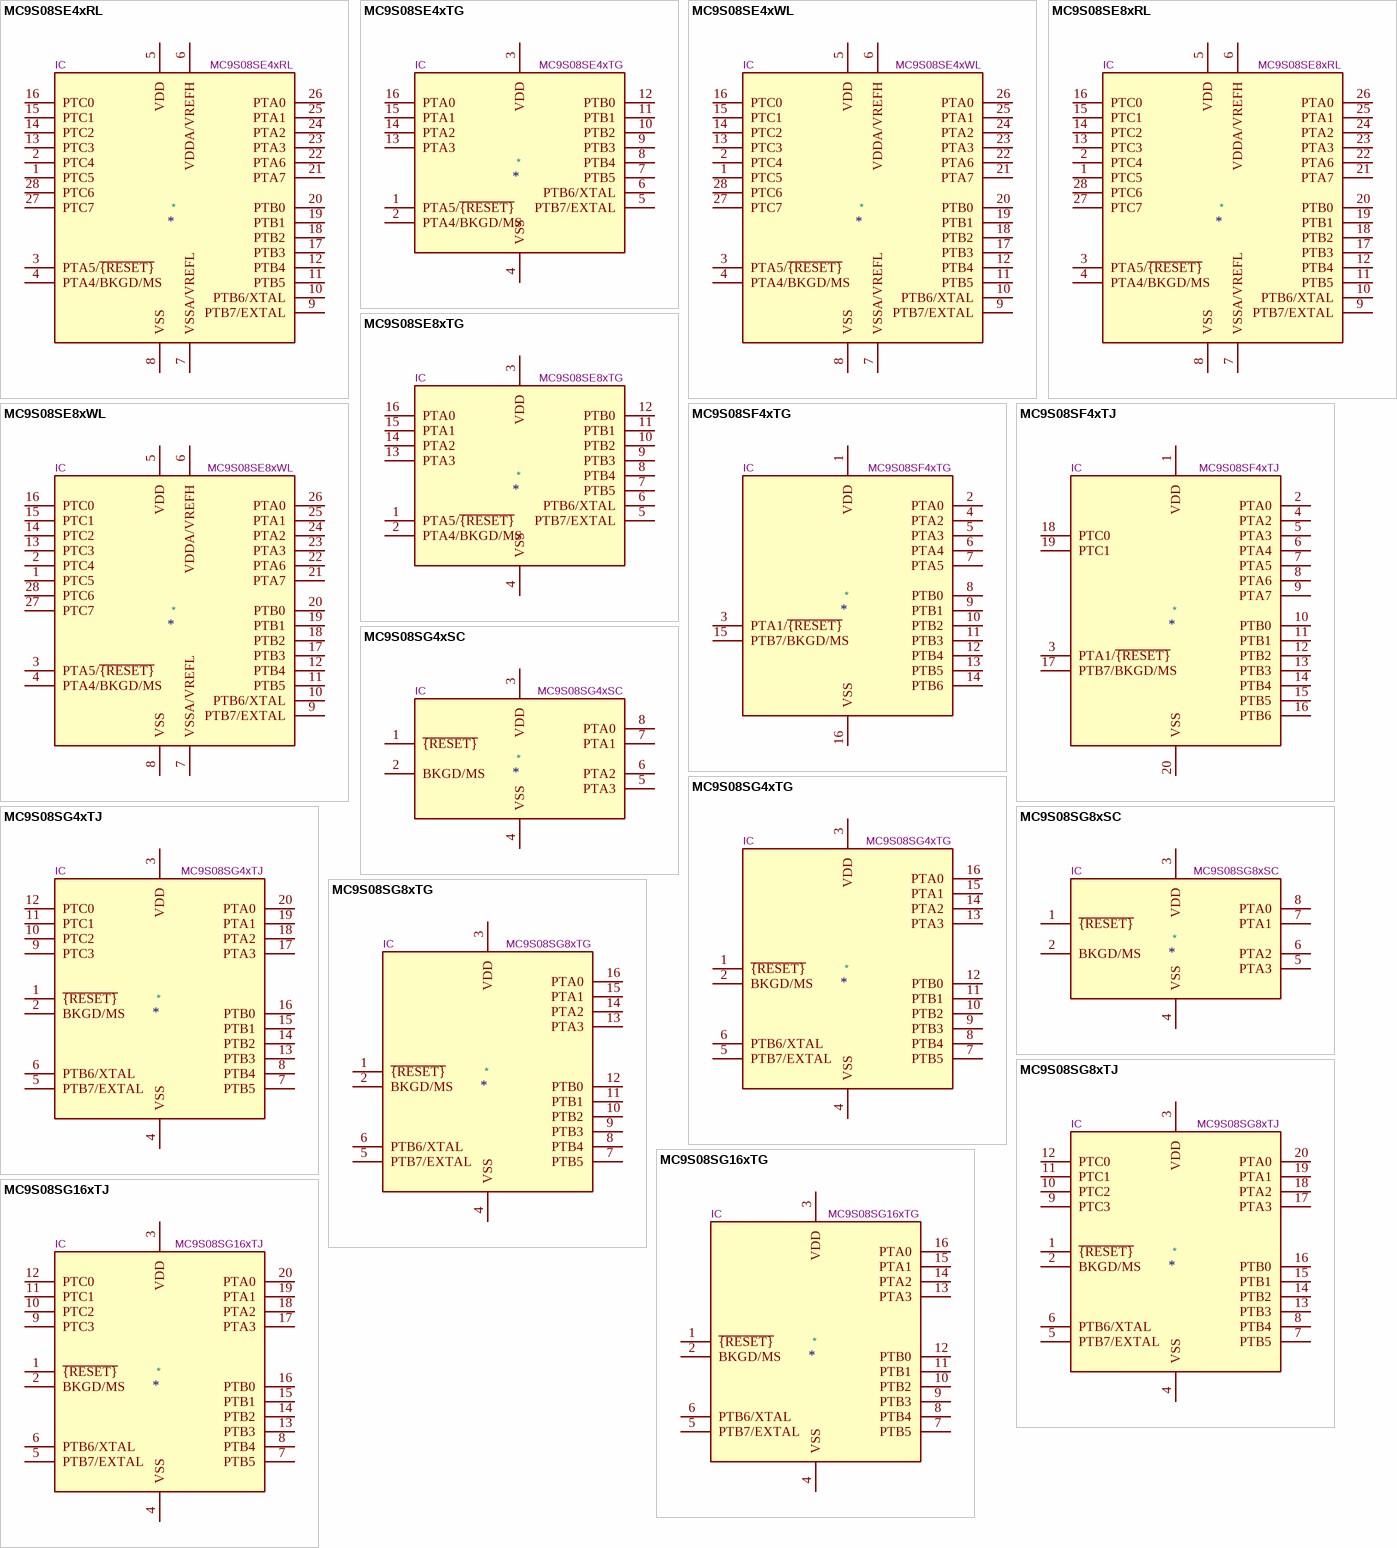
[diagram p16: symbols MC9S08SE4xRL to MC9S08SG16xTJ]

## MC9S08SE4xRL
designator *  value MC9S08SE4xRL  Reference: IC
8-bit General Purpose Microcontroller, S08 core, 4kB Flash, 256B RAM, DIP-28; ki_keywords: NXP S08 Microcontroller; ki_fp_filters: DIP*15.24mm*; Footprint: Package_DIP:DIP-28_W15.24mm; Datasheet: https://www.nxp.com/docs/en/reference-manual/MC9S08SE8RM.pdf; Description_: 8-bit General Purpose Microcontroller, S08 core, 4kB Flash, 256B RAM, DIP-28
pins: 1 PTC5, 2 PTC4, 3 PTA5/~{{RESET}}, 4 PTA4/BKGD/MS, 5 VDD, 6 VDDA/VREFH, 7 VSSA/VREFL, 8 VSS, 9 PTB7/EXTAL, 10 PTB6/XTAL, 11 PTB5, 12 PTB4, 13 PTC3, 14 PTC2, 15 PTC1, 16 PTC0, 17 PTB3, 18 PTB2, 19 PTB1, 20 PTB0, 21 PTA7, 22 PTA6, 23 PTA3, 24 PTA2, 25 PTA1, 26 PTA0, 27 PTC7, 28 PTC6

## MC9S08SE4xTG
designator *  value MC9S08SE4xTG  Reference: IC
8-bit General Purpose Microcontroller, S08 core, 4kB Flash, 256B RAM, TSSOP-16; ki_keywords: NXP S08 Microcontroller; ki_fp_filters: TSSOP*4.4x5mm*P0.65mm*; Footprint: Package_SO:TSSOP-16_4.4x5mm_P0.65mm; Datasheet: https://www.nxp.com/docs/en/reference-manual/MC9S08SE8RM.pdf; Description_: 8-bit General Purpose Microcontroller, S08 core, 4kB Flash, 256B RAM, TSSOP-16
pins: 1 PTA5/~{{RESET}}, 2 PTA4/BKGD/MS, 3 VDD, 4 VSS, 5 PTB7/EXTAL, 6 PTB6/XTAL, 7 PTB5, 8 PTB4, 9 PTB3, 10 PTB2, 11 PTB1, 12 PTB0, 13 PTA3, 14 PTA2, 15 PTA1, 16 PTA0

## MC9S08SE4xWL
designator *  value MC9S08SE4xWL  Reference: IC
8-bit General Purpose Microcontroller, S08 core, 4kB Flash, 256B RAM, SOIC-28; ki_keywords: NXP S08 Microcontroller; ki_fp_filters: SOIC*7.5x17.9mm*P1.27mm*; Footprint: Package_SO:SOIC-28W_7.5x17.9mm_P1.27mm; Datasheet: https://www.nxp.com/docs/en/reference-manual/MC9S08SE8RM.pdf; Description_: 8-bit General Purpose Microcontroller, S08 core, 4kB Flash, 256B RAM, SOIC-28
pins: 1 PTC5, 2 PTC4, 3 PTA5/~{{RESET}}, 4 PTA4/BKGD/MS, 5 VDD, 6 VDDA/VREFH, 7 VSSA/VREFL, 8 VSS, 9 PTB7/EXTAL, 10 PTB6/XTAL, 11 PTB5, 12 PTB4, 13 PTC3, 14 PTC2, 15 PTC1, 16 PTC0, 17 PTB3, 18 PTB2, 19 PTB1, 20 PTB0, 21 PTA7, 22 PTA6, 23 PTA3, 24 PTA2, 25 PTA1, 26 PTA0, 27 PTC7, 28 PTC6

## MC9S08SE8xRL
designator *  value MC9S08SE8xRL  Reference: IC
8-bit General Purpose Microcontroller, S08 core, 8kB Flash, 512B RAM, DIP-28; ki_keywords: NXP S08 Microcontroller; ki_fp_filters: DIP*15.24mm*; Footprint: Package_DIP:DIP-28_W15.24mm; Datasheet: https://www.nxp.com/docs/en/reference-manual/MC9S08SE8RM.pdf; Description_: 8-bit General Purpose Microcontroller, S08 core, 8kB Flash, 512B RAM, DIP-28
pins: 1 PTC5, 2 PTC4, 3 PTA5/~{{RESET}}, 4 PTA4/BKGD/MS, 5 VDD, 6 VDDA/VREFH, 7 VSSA/VREFL, 8 VSS, 9 PTB7/EXTAL, 10 PTB6/XTAL, 11 PTB5, 12 PTB4, 13 PTC3, 14 PTC2, 15 PTC1, 16 PTC0, 17 PTB3, 18 PTB2, 19 PTB1, 20 PTB0, 21 PTA7, 22 PTA6, 23 PTA3, 24 PTA2, 25 PTA1, 26 PTA0, 27 PTC7, 28 PTC6

## MC9S08SE8xTG
designator *  value MC9S08SE8xTG  Reference: IC
8-bit General Purpose Microcontroller, S08 core, 8kB Flash, 512B RAM, TSSOP-16; ki_keywords: NXP S08 Microcontroller; ki_fp_filters: TSSOP*4.4x5mm*P0.65mm*; Footprint: Package_SO:TSSOP-16_4.4x5mm_P0.65mm; Datasheet: https://www.nxp.com/docs/en/reference-manual/MC9S08SE8RM.pdf; Description_: 8-bit General Purpose Microcontroller, S08 core, 8kB Flash, 512B RAM, TSSOP-16
pins: 1 PTA5/~{{RESET}}, 2 PTA4/BKGD/MS, 3 VDD, 4 VSS, 5 PTB7/EXTAL, 6 PTB6/XTAL, 7 PTB5, 8 PTB4, 9 PTB3, 10 PTB2, 11 PTB1, 12 PTB0, 13 PTA3, 14 PTA2, 15 PTA1, 16 PTA0

## MC9S08SE8xWL
designator *  value MC9S08SE8xWL  Reference: IC
8-bit General Purpose Microcontroller, S08 core, 8kB Flash, 512B RAM, SOIC-28; ki_keywords: NXP S08 Microcontroller; ki_fp_filters: SOIC*7.5x17.9mm*P1.27mm*; Footprint: Package_SO:SOIC-28W_7.5x17.9mm_P1.27mm; Datasheet: https://www.nxp.com/docs/en/reference-manual/MC9S08SE8RM.pdf; Description_: 8-bit General Purpose Microcontroller, S08 core, 8kB Flash, 512B RAM, SOIC-28
pins: 1 PTC5, 2 PTC4, 3 PTA5/~{{RESET}}, 4 PTA4/BKGD/MS, 5 VDD, 6 VDDA/VREFH, 7 VSSA/VREFL, 8 VSS, 9 PTB7/EXTAL, 10 PTB6/XTAL, 11 PTB5, 12 PTB4, 13 PTC3, 14 PTC2, 15 PTC1, 16 PTC0, 17 PTB3, 18 PTB2, 19 PTB1, 20 PTB0, 21 PTA7, 22 PTA6, 23 PTA3, 24 PTA2, 25 PTA1, 26 PTA0, 27 PTC7, 28 PTC6

## MC9S08SF4xTG
designator *  value MC9S08SF4xTG  Reference: IC
8-bit Motor Control Microcontroller, S08 core, 4kB Flash, 128B RAM, TSSOP-20; ki_keywords: NXP S08 Microcontroller; ki_fp_filters: TSSOP*4.4x5mm*P0.65mm*; Footprint: Package_SO:TSSOP-16_4.4x5mm_P0.65mm; Datasheet: https://www.nxp.com/docs/en/reference-manual/MC9S08SF4RM.pdf; Description_: 8-bit Motor Control Microcontroller, S08 core, 4kB Flash, 128B RAM, TSSOP-20
pins: 1 VDD, 2 PTA0, 3 PTA1/~{{RESET}}, 4 PTA2, 5 PTA3, 6 PTA4, 7 PTA5, 8 PTB0, 9 PTB1, 10 PTB2, 11 PTB3, 12 PTB4, 13 PTB5, 14 PTB6, 15 PTB7/BKGD/MS, 16 VSS

## MC9S08SF4xTJ
designator *  value MC9S08SF4xTJ  Reference: IC
8-bit Motor Control Microcontroller, S08 core, 4kB Flash, 128B RAM, TSSOP-20; ki_keywords: NXP S08 Microcontroller; ki_fp_filters: TSSOP*4.4x6.5mm*P0.65mm*; Footprint: Package_SO:TSSOP-20_4.4x6.5mm_P0.65mm; Datasheet: https://www.nxp.com/docs/en/reference-manual/MC9S08SF4RM.pdf; Description_: 8-bit Motor Control Microcontroller, S08 core, 4kB Flash, 128B RAM, TSSOP-20
pins: 1 VDD, 2 PTA0, 3 PTA1/~{{RESET}}, 4 PTA2, 5 PTA3, 6 PTA4, 7 PTA5, 8 PTA6, 9 PTA7, 10 PTB0, 11 PTB1, 12 PTB2, 13 PTB3, 14 PTB4, 15 PTB5, 16 PTB6, 17 PTB7/BKGD/MS, 18 PTC0, 19 PTC1, 20 VSS

## MC9S08SG4xSC
designator *  value MC9S08SG4xSC  Reference: IC
8-bit Small Package Microcontroller, S08 core, 4kB Flash, 256B RAM, SOIC-8; ki_keywords: NXP S08 Microcontroller; ki_fp_filters: SOIC*3.9x4.9mm*P1.27mm*; Footprint: Package_SO:SOIC-8_3.9x4.9mm_P1.27mm; Datasheet: https://www.nxp.com/docs/en/data-sheet/MC9S08SG8.pdf; Description_: 8-bit Small Package Microcontroller, S08 core, 4kB Flash, 256B RAM, SOIC-8
pins: 1 ~{{RESET}}, 2 BKGD/MS, 3 VDD, 4 VSS, 5 PTA3, 6 PTA2, 7 PTA1, 8 PTA0

## MC9S08SG4xTG
designator *  value MC9S08SG4xTG  Reference: IC
8-bit Small Package Microcontroller, S08 core, 4kB Flash, 256B RAM, TSSOP-16; ki_keywords: NXP S08 Microcontroller; ki_fp_filters: TSSOP*4.4x5mm*P0.65mm*; Footprint: Package_SO:TSSOP-16_4.4x5mm_P0.65mm; Datasheet: https://www.nxp.com/docs/en/data-sheet/MC9S08SG8.pdf; Description_: 8-bit Small Package Microcontroller, S08 core, 4kB Flash, 256B RAM, TSSOP-16
pins: 1 ~{{RESET}}, 2 BKGD/MS, 3 VDD, 4 VSS, 5 PTB7/EXTAL, 6 PTB6/XTAL, 7 PTB5, 8 PTB4, 9 PTB3, 10 PTB2, 11 PTB1, 12 PTB0, 13 PTA3, 14 PTA2, 15 PTA1, 16 PTA0

## MC9S08SG4xTJ
designator *  value MC9S08SG4xTJ  Reference: IC
8-bit Small Package Microcontroller, S08 core, 4kB Flash, 256B RAM, TSSOP-20; ki_keywords: NXP S08 Microcontroller; ki_fp_filters: TSSOP*4.4x6.5mm*P0.65mm*; Footprint: Package_SO:TSSOP-20_4.4x6.5mm_P0.65mm; Datasheet: https://www.nxp.com/docs/en/data-sheet/MC9S08SG8.pdf; Description_: 8-bit Small Package Microcontroller, S08 core, 4kB Flash, 256B RAM, TSSOP-20
pins: 1 ~{{RESET}}, 2 BKGD/MS, 3 VDD, 4 VSS, 5 PTB7/EXTAL, 6 PTB6/XTAL, 7 PTB5, 8 PTB4, 9 PTC3, 10 PTC2, 11 PTC1, 12 PTC0, 13 PTB3, 14 PTB2, 15 PTB1, 16 PTB0, 17 PTA3, 18 PTA2, 19 PTA1, 20 PTA0

## MC9S08SG8xSC
designator *  value MC9S08SG8xSC  Reference: IC
8-bit Small Package Microcontroller, S08 core, 8kB Flash, 512B RAM, SOIC-8; ki_keywords: NXP S08 Microcontroller; ki_fp_filters: SOIC*3.9x4.9mm*P1.27mm*; Footprint: Package_SO:SOIC-8_3.9x4.9mm_P1.27mm; Datasheet: https://www.nxp.com/docs/en/data-sheet/MC9S08SG8.pdf; Description_: 8-bit Small Package Microcontroller, S08 core, 8kB Flash, 512B RAM, SOIC-8
pins: 1 ~{{RESET}}, 2 BKGD/MS, 3 VDD, 4 VSS, 5 PTA3, 6 PTA2, 7 PTA1, 8 PTA0

## MC9S08SG8xTG
designator *  value MC9S08SG8xTG  Reference: IC
8-bit Small Package Microcontroller, S08 core, 8kB Flash, 512B RAM, TSSOP-16; ki_keywords: NXP S08 Microcontroller; ki_fp_filters: TSSOP*4.4x5mm*P0.65mm*; Footprint: Package_SO:TSSOP-16_4.4x5mm_P0.65mm; Datasheet: https://www.nxp.com/docs/en/data-sheet/MC9S08SG8.pdf; Description_: 8-bit Small Package Microcontroller, S08 core, 8kB Flash, 512B RAM, TSSOP-16
pins: 1 ~{{RESET}}, 2 BKGD/MS, 3 VDD, 4 VSS, 5 PTB7/EXTAL, 6 PTB6/XTAL, 7 PTB5, 8 PTB4, 9 PTB3, 10 PTB2, 11 PTB1, 12 PTB0, 13 PTA3, 14 PTA2, 15 PTA1, 16 PTA0

## MC9S08SG8xTJ
designator *  value MC9S08SG8xTJ  Reference: IC
8-bit Small Package Microcontroller, S08 core, 8kB Flash, 512B RAM, TSSOP-20; ki_keywords: NXP S08 Microcontroller; ki_fp_filters: TSSOP*4.4x6.5mm*P0.65mm*; Footprint: Package_SO:TSSOP-20_4.4x6.5mm_P0.65mm; Datasheet: https://www.nxp.com/docs/en/data-sheet/MC9S08SG8.pdf; Description_: 8-bit Small Package Microcontroller, S08 core, 8kB Flash, 512B RAM, TSSOP-20
pins: 1 ~{{RESET}}, 2 BKGD/MS, 3 VDD, 4 VSS, 5 PTB7/EXTAL, 6 PTB6/XTAL, 7 PTB5, 8 PTB4, 9 PTC3, 10 PTC2, 11 PTC1, 12 PTC0, 13 PTB3, 14 PTB2, 15 PTB1, 16 PTB0, 17 PTA3, 18 PTA2, 19 PTA1, 20 PTA0

## MC9S08SG16xTG
designator *  value MC9S08SG16xTG  Reference: IC
8-bit Small Package Microcontroller, S08 core, 16kB Flash, 1kB RAM, TSSOP-16; ki_keywords: NXP S08 Microcontroller; ki_fp_filters: TSSOP*4.4x5mm*P0.65mm*; Footprint: Package_SO:TSSOP-16_4.4x5mm_P0.65mm; Datasheet: https://www.nxp.com/docs/en/data-sheet/MC9S08SG32.pdf; Description_: 8-bit Small Package Microcontroller, S08 core, 16kB Flash, 1kB RAM, TSSOP-16
pins: 1 ~{{RESET}}, 2 BKGD/MS, 3 VDD, 4 VSS, 5 PTB7/EXTAL, 6 PTB6/XTAL, 7 PTB5, 8 PTB4, 9 PTB3, 10 PTB2, 11 PTB1, 12 PTB0, 13 PTA3, 14 PTA2, 15 PTA1, 16 PTA0

## MC9S08SG16xTJ
designator *  value MC9S08SG16xTJ  Reference: IC
8-bit Small Package Microcontroller, S08 core, 16kB Flash, 1kB RAM, TSSOP-20; ki_keywords: NXP S08 Microcontroller; ki_fp_filters: TSSOP*4.4x6.5mm*P0.65mm*; Footprint: Package_SO:TSSOP-20_4.4x6.5mm_P0.65mm; Datasheet: https://www.nxp.com/docs/en/data-sheet/MC9S08SG32.pdf; Description_: 8-bit Small Package Microcontroller, S08 core, 16kB Flash, 1kB RAM, TSSOP-20
pins: 1 ~{{RESET}}, 2 BKGD/MS, 3 VDD, 4 VSS, 5 PTB7/EXTAL, 6 PTB6/XTAL, 7 PTB5, 8 PTB4, 9 PTC3, 10 PTC2, 11 PTC1, 12 PTC0, 13 PTB3, 14 PTB2, 15 PTB1, 16 PTB0, 17 PTA3, 18 PTA2, 19 PTA1, 20 PTA0

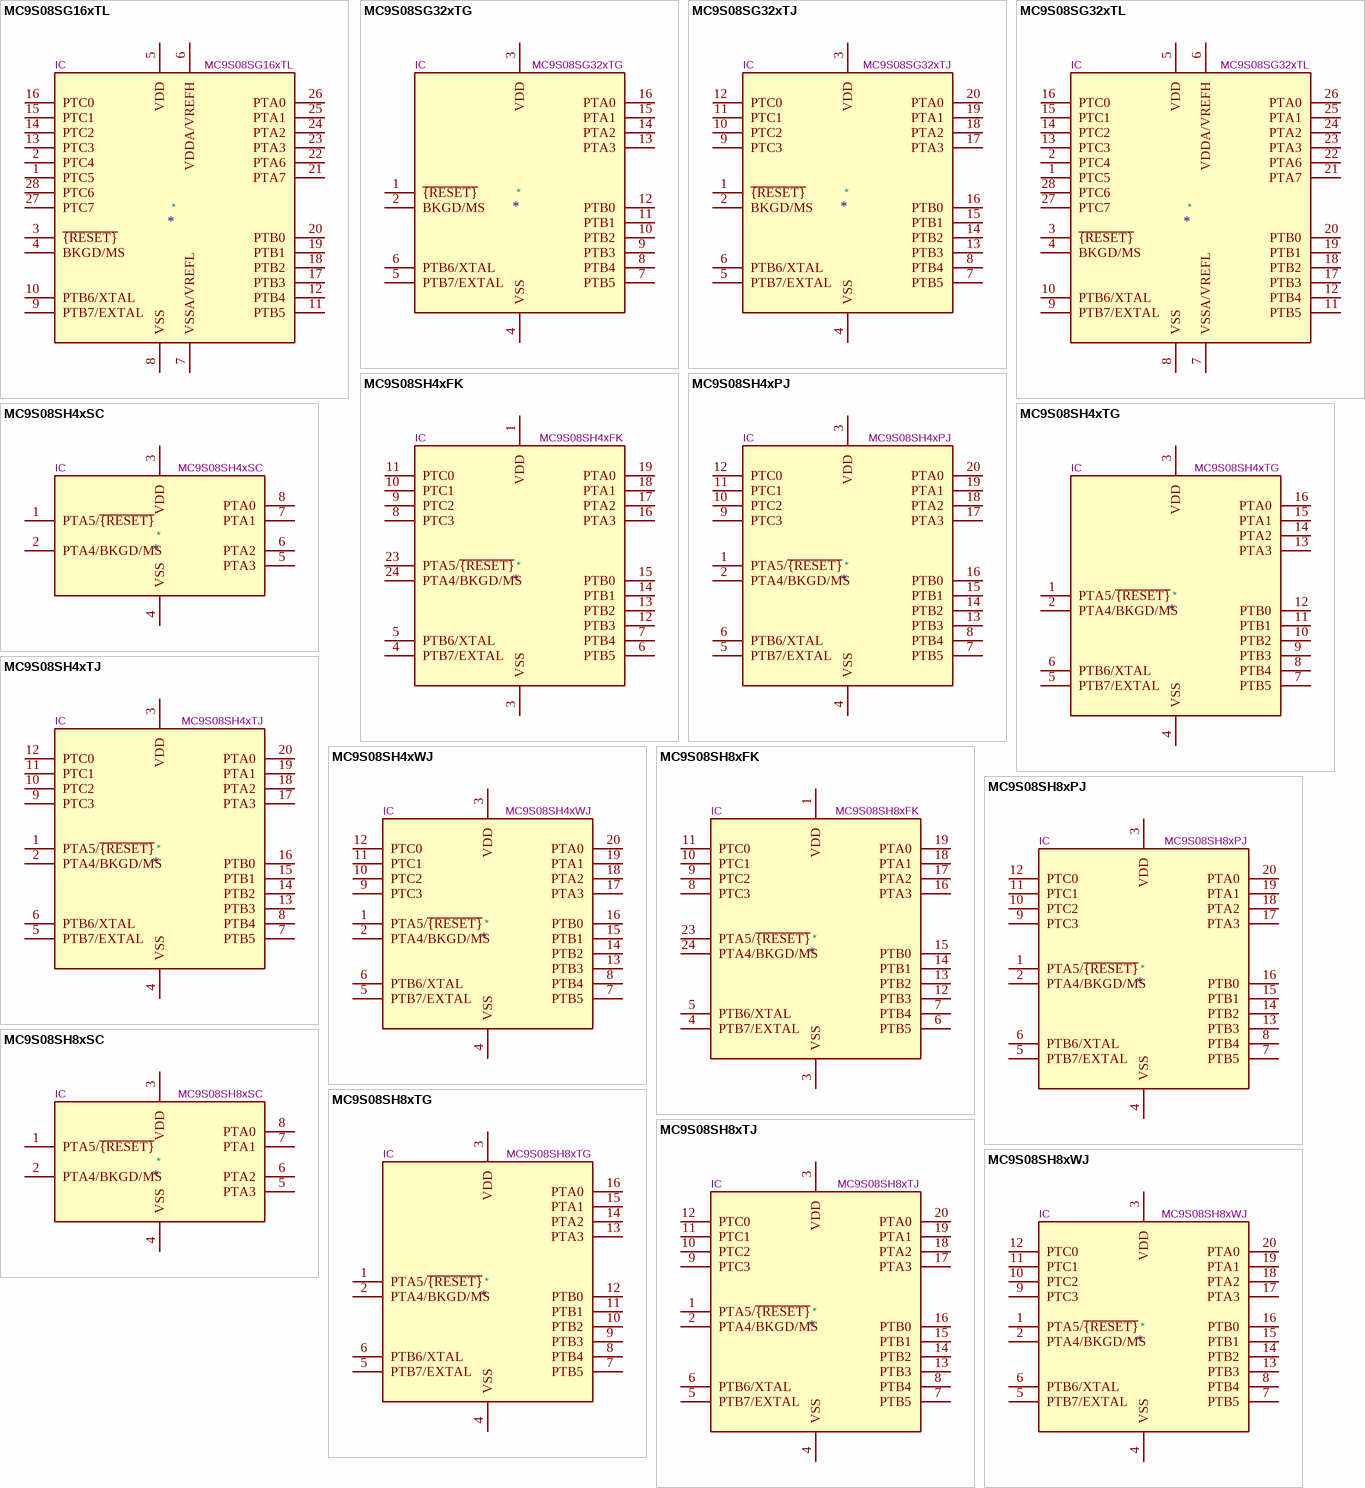
[diagram p17: symbols MC9S08SG16xTL to MC9S08SH8xWJ]

## MC9S08SG16xTL
designator *  value MC9S08SG16xTL  Reference: IC
8-bit Small Package Microcontroller, S08 core, 16kB Flash, 1kB RAM, TSSOP-28; ki_keywords: NXP S08 Microcontroller; ki_fp_filters: TSSOP*4.4x9.7mm*P0.65mm*; Footprint: Package_SO:TSSOP-28_4.4x9.7mm_P0.65mm; Datasheet: https://www.nxp.com/docs/en/data-sheet/MC9S08SG32.pdf; Description_: 8-bit Small Package Microcontroller, S08 core, 16kB Flash, 1kB RAM, TSSOP-28
pins: 1 PTC5, 2 PTC4, 3 ~{{RESET}}, 4 BKGD/MS, 5 VDD, 6 VDDA/VREFH, 7 VSSA/VREFL, 8 VSS, 9 PTB7/EXTAL, 10 PTB6/XTAL, 11 PTB5, 12 PTB4, 13 PTC3, 14 PTC2, 15 PTC1, 16 PTC0, 17 PTB3, 18 PTB2, 19 PTB1, 20 PTB0, 21 PTA7, 22 PTA6, 23 PTA3, 24 PTA2, 25 PTA1, 26 PTA0, 27 PTC7, 28 PTC6

## MC9S08SG32xTG
designator *  value MC9S08SG32xTG  Reference: IC
8-bit Small Package Microcontroller, S08 core, 32kB Flash, 1kB RAM, TSSOP-16; ki_keywords: NXP S08 Microcontroller; ki_fp_filters: TSSOP*4.4x5mm*P0.65mm*; Footprint: Package_SO:TSSOP-16_4.4x5mm_P0.65mm; Datasheet: https://www.nxp.com/docs/en/data-sheet/MC9S08SG32.pdf; Description_: 8-bit Small Package Microcontroller, S08 core, 32kB Flash, 1kB RAM, TSSOP-16
pins: 1 ~{{RESET}}, 2 BKGD/MS, 3 VDD, 4 VSS, 5 PTB7/EXTAL, 6 PTB6/XTAL, 7 PTB5, 8 PTB4, 9 PTB3, 10 PTB2, 11 PTB1, 12 PTB0, 13 PTA3, 14 PTA2, 15 PTA1, 16 PTA0

## MC9S08SG32xTJ
designator *  value MC9S08SG32xTJ  Reference: IC
8-bit Small Package Microcontroller, S08 core, 32kB Flash, 1kB RAM, TSSOP-20; ki_keywords: NXP S08 Microcontroller; ki_fp_filters: TSSOP*4.4x6.5mm*P0.65mm*; Footprint: Package_SO:TSSOP-20_4.4x6.5mm_P0.65mm; Datasheet: https://www.nxp.com/docs/en/data-sheet/MC9S08SG32.pdf; Description_: 8-bit Small Package Microcontroller, S08 core, 32kB Flash, 1kB RAM, TSSOP-20
pins: 1 ~{{RESET}}, 2 BKGD/MS, 3 VDD, 4 VSS, 5 PTB7/EXTAL, 6 PTB6/XTAL, 7 PTB5, 8 PTB4, 9 PTC3, 10 PTC2, 11 PTC1, 12 PTC0, 13 PTB3, 14 PTB2, 15 PTB1, 16 PTB0, 17 PTA3, 18 PTA2, 19 PTA1, 20 PTA0

## MC9S08SG32xTL
designator *  value MC9S08SG32xTL  Reference: IC
8-bit Small Package Microcontroller, S08 core, 32kB Flash, 1kB RAM, TSSOP-28; ki_keywords: NXP S08 Microcontroller; ki_fp_filters: TSSOP*4.4x9.7mm*P0.65mm*; Footprint: Package_SO:TSSOP-28_4.4x9.7mm_P0.65mm; Datasheet: https://www.nxp.com/docs/en/data-sheet/MC9S08SG32.pdf; Description_: 8-bit Small Package Microcontroller, S08 core, 32kB Flash, 1kB RAM, TSSOP-28
pins: 1 PTC5, 2 PTC4, 3 ~{{RESET}}, 4 BKGD/MS, 5 VDD, 6 VDDA/VREFH, 7 VSSA/VREFL, 8 VSS, 9 PTB7/EXTAL, 10 PTB6/XTAL, 11 PTB5, 12 PTB4, 13 PTC3, 14 PTC2, 15 PTC1, 16 PTC0, 17 PTB3, 18 PTB2, 19 PTB1, 20 PTB0, 21 PTA7, 22 PTA6, 23 PTA3, 24 PTA2, 25 PTA1, 26 PTA0, 27 PTC7, 28 PTC6

## MC9S08SH4xFK
designator *  value MC9S08SH4xFK  Reference: IC
8-bit General Purpose Microcontroller, S08 core, 4kB Flash, 256B RAM, QFN-24; ki_keywords: NXP S08 Microcontroller; ki_fp_filters: QFN*4x4mm*P0.5mm*; Footprint: Package_DFN_QFN:QFN-24-1EP_4x4mm_P0.5mm_EP2.6x2.6mm; Datasheet: https://www.nxp.com/docs/en/data-sheet/MC9S08SH8.pdf; Description_: 8-bit General Purpose Microcontroller, S08 core, 4kB Flash, 256B RAM, QFN-24
pins: 1 VDD, 3 VSS, 4 PTB7/EXTAL, 5 PTB6/XTAL, 6 PTB5, 7 PTB4, 8 PTC3, 9 PTC2, 10 PTC1, 11 PTC0, 12 PTB3, 13 PTB2, 14 PTB1, 15 PTB0, 16 PTA3, 17 PTA2, 18 PTA1, 19 PTA0, 23 PTA5/~{{RESET}}, 24 PTA4/BKGD/MS

## MC9S08SH4xPJ
designator *  value MC9S08SH4xPJ  Reference: IC
8-bit General Purpose Microcontroller, S08 core, 4kB Flash, 256B RAM, DIP-20; ki_keywords: NXP S08 Microcontroller; ki_fp_filters: DIP*7.62mm*; Footprint: Package_DIP:DIP-20_W7.62mm; Datasheet: https://www.nxp.com/docs/en/data-sheet/MC9S08SH8.pdf; Description_: 8-bit General Purpose Microcontroller, S08 core, 4kB Flash, 256B RAM, DIP-20
pins: 1 PTA5/~{{RESET}}, 2 PTA4/BKGD/MS, 3 VDD, 4 VSS, 5 PTB7/EXTAL, 6 PTB6/XTAL, 7 PTB5, 8 PTB4, 9 PTC3, 10 PTC2, 11 PTC1, 12 PTC0, 13 PTB3, 14 PTB2, 15 PTB1, 16 PTB0, 17 PTA3, 18 PTA2, 19 PTA1, 20 PTA0

## MC9S08SH4xSC
designator *  value MC9S08SH4xSC  Reference: IC
8-bit General Purpose Microcontroller, S08 core, 4kB Flash, 256B RAM, SOIC-8; ki_keywords: NXP S08 Microcontroller; ki_fp_filters: SOIC*3.9x4.9mm*P1.27mm*; Footprint: Package_SO:SOIC-8_3.9x4.9mm_P1.27mm; Datasheet: https://www.nxp.com/docs/en/data-sheet/MC9S08SH8.pdf; Description_: 8-bit General Purpose Microcontroller, S08 core, 4kB Flash, 256B RAM, SOIC-8
pins: 1 PTA5/~{{RESET}}, 2 PTA4/BKGD/MS, 3 VDD, 4 VSS, 5 PTA3, 6 PTA2, 7 PTA1, 8 PTA0

## MC9S08SH4xTG
designator *  value MC9S08SH4xTG  Reference: IC
8-bit General Purpose Microcontroller, S08 core, 4kB Flash, 256B RAM, TSSOP-16; ki_keywords: NXP S08 Microcontroller; ki_fp_filters: TSSOP*4.4x5mm*P0.65mm*; Footprint: Package_SO:TSSOP-16_4.4x5mm_P0.65mm; Datasheet: https://www.nxp.com/docs/en/data-sheet/MC9S08SH8.pdf; Description_: 8-bit General Purpose Microcontroller, S08 core, 4kB Flash, 256B RAM, TSSOP-16
pins: 1 PTA5/~{{RESET}}, 2 PTA4/BKGD/MS, 3 VDD, 4 VSS, 5 PTB7/EXTAL, 6 PTB6/XTAL, 7 PTB5, 8 PTB4, 9 PTB3, 10 PTB2, 11 PTB1, 12 PTB0, 13 PTA3, 14 PTA2, 15 PTA1, 16 PTA0

## MC9S08SH4xTJ
designator *  value MC9S08SH4xTJ  Reference: IC
8-bit General Purpose Microcontroller, S08 core, 4kB Flash, 256B RAM, TSSOP-20; ki_keywords: NXP S08 Microcontroller; ki_fp_filters: TSSOP*4.4x6.5mm*P0.65mm*; Footprint: Package_SO:TSSOP-20_4.4x6.5mm_P0.65mm; Datasheet: https://www.nxp.com/docs/en/data-sheet/MC9S08SH8.pdf; Description_: 8-bit General Purpose Microcontroller, S08 core, 4kB Flash, 256B RAM, TSSOP-20
pins: 1 PTA5/~{{RESET}}, 2 PTA4/BKGD/MS, 3 VDD, 4 VSS, 5 PTB7/EXTAL, 6 PTB6/XTAL, 7 PTB5, 8 PTB4, 9 PTC3, 10 PTC2, 11 PTC1, 12 PTC0, 13 PTB3, 14 PTB2, 15 PTB1, 16 PTB0, 17 PTA3, 18 PTA2, 19 PTA1, 20 PTA0

## MC9S08SH4xWJ
designator *  value MC9S08SH4xWJ  Reference: IC
8-bit General Purpose Microcontroller, S08 core, 4kB Flash, 256B RAM, SOIC-20; ki_keywords: NXP S08 Microcontroller; ki_fp_filters: SOIC*7.5x12.8mm*P1.27mm*; Footprint: Package_SO:SOIC-20W_7.5x12.8mm_P1.27mm; Datasheet: https://www.nxp.com/docs/en/data-sheet/MC9S08SH8.pdf; Description_: 8-bit General Purpose Microcontroller, S08 core, 4kB Flash, 256B RAM, SOIC-20
pins: 1 PTA5/~{{RESET}}, 2 PTA4/BKGD/MS, 3 VDD, 4 VSS, 5 PTB7/EXTAL, 6 PTB6/XTAL, 7 PTB5, 8 PTB4, 9 PTC3, 10 PTC2, 11 PTC1, 12 PTC0, 13 PTB3, 14 PTB2, 15 PTB1, 16 PTB0, 17 PTA3, 18 PTA2, 19 PTA1, 20 PTA0

## MC9S08SH8xFK
designator *  value MC9S08SH8xFK  Reference: IC
8-bit General Purpose Microcontroller, S08 core, 8kB Flash, 512B RAM, QFN-24; ki_keywords: NXP S08 Microcontroller; ki_fp_filters: QFN*4x4mm*P0.5mm*; Footprint: Package_DFN_QFN:QFN-24-1EP_4x4mm_P0.5mm_EP2.6x2.6mm; Datasheet: https://www.nxp.com/docs/en/data-sheet/MC9S08SH8.pdf; Description_: 8-bit General Purpose Microcontroller, S08 core, 8kB Flash, 512B RAM, QFN-24
pins: 1 VDD, 3 VSS, 4 PTB7/EXTAL, 5 PTB6/XTAL, 6 PTB5, 7 PTB4, 8 PTC3, 9 PTC2, 10 PTC1, 11 PTC0, 12 PTB3, 13 PTB2, 14 PTB1, 15 PTB0, 16 PTA3, 17 PTA2, 18 PTA1, 19 PTA0, 23 PTA5/~{{RESET}}, 24 PTA4/BKGD/MS

## MC9S08SH8xPJ
designator *  value MC9S08SH8xPJ  Reference: IC
8-bit General Purpose Microcontroller, S08 core, 8kB Flash, 512B RAM, DIP-20; ki_keywords: NXP S08 Microcontroller; ki_fp_filters: DIP*7.62mm*; Footprint: Package_DIP:DIP-20_W7.62mm; Datasheet: https://www.nxp.com/docs/en/data-sheet/MC9S08SH8.pdf; Description_: 8-bit General Purpose Microcontroller, S08 core, 8kB Flash, 512B RAM, DIP-20
pins: 1 PTA5/~{{RESET}}, 2 PTA4/BKGD/MS, 3 VDD, 4 VSS, 5 PTB7/EXTAL, 6 PTB6/XTAL, 7 PTB5, 8 PTB4, 9 PTC3, 10 PTC2, 11 PTC1, 12 PTC0, 13 PTB3, 14 PTB2, 15 PTB1, 16 PTB0, 17 PTA3, 18 PTA2, 19 PTA1, 20 PTA0

## MC9S08SH8xSC
designator *  value MC9S08SH8xSC  Reference: IC
8-bit General Purpose Microcontroller, S08 core, 8kB Flash, 512B RAM, SOIC-8; ki_keywords: NXP S08 Microcontroller; ki_fp_filters: SOIC*3.9x4.9mm*P1.27mm*; Footprint: Package_SO:SOIC-8_3.9x4.9mm_P1.27mm; Datasheet: https://www.nxp.com/docs/en/data-sheet/MC9S08SH8.pdf; Description_: 8-bit General Purpose Microcontroller, S08 core, 8kB Flash, 512B RAM, SOIC-8
pins: 1 PTA5/~{{RESET}}, 2 PTA4/BKGD/MS, 3 VDD, 4 VSS, 5 PTA3, 6 PTA2, 7 PTA1, 8 PTA0

## MC9S08SH8xTG
designator *  value MC9S08SH8xTG  Reference: IC
8-bit General Purpose Microcontroller, S08 core, 8kB Flash, 512B RAM, TSSOP-16; ki_keywords: NXP S08 Microcontroller; ki_fp_filters: TSSOP*4.4x5mm*P0.65mm*; Footprint: Package_SO:TSSOP-16_4.4x5mm_P0.65mm; Datasheet: https://www.nxp.com/docs/en/data-sheet/MC9S08SH8.pdf; Description_: 8-bit General Purpose Microcontroller, S08 core, 8kB Flash, 512B RAM, TSSOP-16
pins: 1 PTA5/~{{RESET}}, 2 PTA4/BKGD/MS, 3 VDD, 4 VSS, 5 PTB7/EXTAL, 6 PTB6/XTAL, 7 PTB5, 8 PTB4, 9 PTB3, 10 PTB2, 11 PTB1, 12 PTB0, 13 PTA3, 14 PTA2, 15 PTA1, 16 PTA0

## MC9S08SH8xTJ
designator *  value MC9S08SH8xTJ  Reference: IC
8-bit General Purpose Microcontroller, S08 core, 8kB Flash, 512B RAM, TSSOP-20; ki_keywords: NXP S08 Microcontroller; ki_fp_filters: TSSOP*4.4x6.5mm*P0.65mm*; Footprint: Package_SO:TSSOP-20_4.4x6.5mm_P0.65mm; Datasheet: https://www.nxp.com/docs/en/data-sheet/MC9S08SH8.pdf; Description_: 8-bit General Purpose Microcontroller, S08 core, 8kB Flash, 512B RAM, TSSOP-20
pins: 1 PTA5/~{{RESET}}, 2 PTA4/BKGD/MS, 3 VDD, 4 VSS, 5 PTB7/EXTAL, 6 PTB6/XTAL, 7 PTB5, 8 PTB4, 9 PTC3, 10 PTC2, 11 PTC1, 12 PTC0, 13 PTB3, 14 PTB2, 15 PTB1, 16 PTB0, 17 PTA3, 18 PTA2, 19 PTA1, 20 PTA0

## MC9S08SH8xWJ
designator *  value MC9S08SH8xWJ  Reference: IC
8-bit General Purpose Microcontroller, S08 core, 8kB Flash, 512B RAM, SOIC-20; ki_keywords: NXP S08 Microcontroller; ki_fp_filters: SOIC*7.5x12.8mm*P1.27mm*; Footprint: Package_SO:SOIC-20W_7.5x12.8mm_P1.27mm; Datasheet: https://www.nxp.com/docs/en/data-sheet/MC9S08SH8.pdf; Description_: 8-bit General Purpose Microcontroller, S08 core, 8kB Flash, 512B RAM, SOIC-20
pins: 1 PTA5/~{{RESET}}, 2 PTA4/BKGD/MS, 3 VDD, 4 VSS, 5 PTB7/EXTAL, 6 PTB6/XTAL, 7 PTB5, 8 PTB4, 9 PTC3, 10 PTC2, 11 PTC1, 12 PTC0, 13 PTB3, 14 PTB2, 15 PTB1, 16 PTB0, 17 PTA3, 18 PTA2, 19 PTA1, 20 PTA0

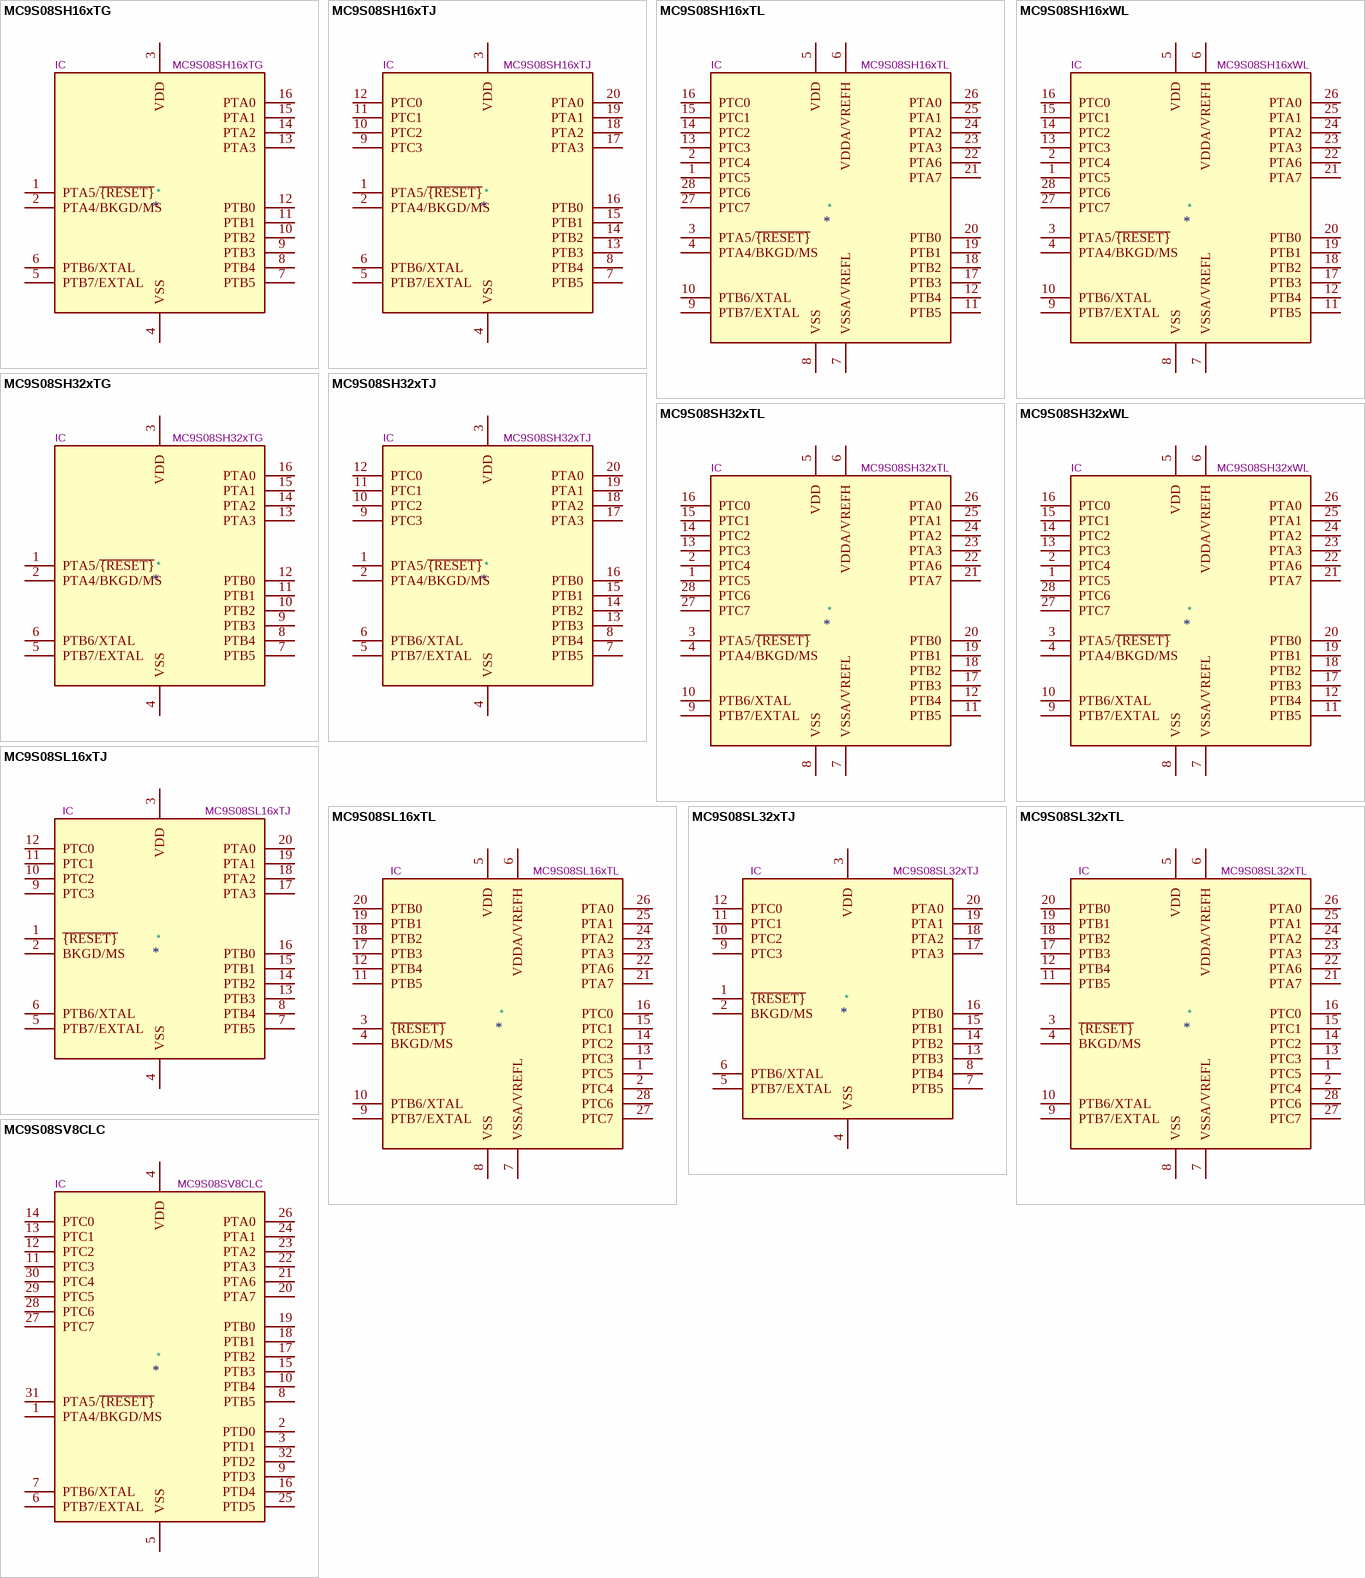
[diagram p18: symbols MC9S08SH16xTG to MC9S08SV8CLC]

## MC9S08SH16xTG
designator *  value MC9S08SH16xTG  Reference: IC
8-bit General Purpose Microcontroller, S08 core, 16kB Flash, 1kB RAM, TSSOP-16; ki_keywords: NXP S08 Microcontroller; ki_fp_filters: TSSOP*4.4x5mm*P0.65mm*; Footprint: Package_SO:TSSOP-16_4.4x5mm_P0.65mm; Datasheet: https://www.nxp.com/docs/en/data-sheet/MC9S08SH32.pdf; Description_: 8-bit General Purpose Microcontroller, S08 core, 16kB Flash, 1kB RAM, TSSOP-16
pins: 1 PTA5/~{{RESET}}, 2 PTA4/BKGD/MS, 3 VDD, 4 VSS, 5 PTB7/EXTAL, 6 PTB6/XTAL, 7 PTB5, 8 PTB4, 9 PTB3, 10 PTB2, 11 PTB1, 12 PTB0, 13 PTA3, 14 PTA2, 15 PTA1, 16 PTA0

## MC9S08SH16xTJ
designator *  value MC9S08SH16xTJ  Reference: IC
8-bit General Purpose Microcontroller, S08 core, 16kB Flash, 1kB RAM, TSSOP-20; ki_keywords: NXP S08 Microcontroller; ki_fp_filters: TSSOP*4.4x6.5mm*P0.65mm*; Footprint: Package_SO:TSSOP-20_4.4x6.5mm_P0.65mm; Datasheet: https://www.nxp.com/docs/en/data-sheet/MC9S08SH32.pdf; Description_: 8-bit General Purpose Microcontroller, S08 core, 16kB Flash, 1kB RAM, TSSOP-20
pins: 1 PTA5/~{{RESET}}, 2 PTA4/BKGD/MS, 3 VDD, 4 VSS, 5 PTB7/EXTAL, 6 PTB6/XTAL, 7 PTB5, 8 PTB4, 9 PTC3, 10 PTC2, 11 PTC1, 12 PTC0, 13 PTB3, 14 PTB2, 15 PTB1, 16 PTB0, 17 PTA3, 18 PTA2, 19 PTA1, 20 PTA0

## MC9S08SH16xTL
designator *  value MC9S08SH16xTL  Reference: IC
8-bit General Purpose Microcontroller, S08 core, 16kB Flash, 1kB RAM, TSSOP-28; ki_keywords: NXP S08 Microcontroller; ki_fp_filters: TSSOP*4.4x9.7mm*P0.65mm*; Footprint: Package_SO:TSSOP-28_4.4x9.7mm_P0.65mm; Datasheet: https://www.nxp.com/docs/en/data-sheet/MC9S08SH32.pdf; Description_: 8-bit General Purpose Microcontroller, S08 core, 16kB Flash, 1kB RAM, TSSOP-28
pins: 1 PTC5, 2 PTC4, 3 PTA5/~{{RESET}}, 4 PTA4/BKGD/MS, 5 VDD, 6 VDDA/VREFH, 7 VSSA/VREFL, 8 VSS, 9 PTB7/EXTAL, 10 PTB6/XTAL, 11 PTB5, 12 PTB4, 13 PTC3, 14 PTC2, 15 PTC1, 16 PTC0, 17 PTB3, 18 PTB2, 19 PTB1, 20 PTB0, 21 PTA7, 22 PTA6, 23 PTA3, 24 PTA2, 25 PTA1, 26 PTA0, 27 PTC7, 28 PTC6

## MC9S08SH16xWL
designator *  value MC9S08SH16xWL  Reference: IC
8-bit General Purpose Microcontroller, S08 core, 16kB Flash, 1kB RAM, SOIC-28; ki_keywords: NXP S08 Microcontroller; ki_fp_filters: SOIC*7.5x17.9mm*P1.27mm*; Footprint: Package_SO:SOIC-28W_7.5x17.9mm_P1.27mm; Datasheet: https://www.nxp.com/docs/en/data-sheet/MC9S08SH32.pdf; Description_: 8-bit General Purpose Microcontroller, S08 core, 16kB Flash, 1kB RAM, SOIC-28
pins: 1 PTC5, 2 PTC4, 3 PTA5/~{{RESET}}, 4 PTA4/BKGD/MS, 5 VDD, 6 VDDA/VREFH, 7 VSSA/VREFL, 8 VSS, 9 PTB7/EXTAL, 10 PTB6/XTAL, 11 PTB5, 12 PTB4, 13 PTC3, 14 PTC2, 15 PTC1, 16 PTC0, 17 PTB3, 18 PTB2, 19 PTB1, 20 PTB0, 21 PTA7, 22 PTA6, 23 PTA3, 24 PTA2, 25 PTA1, 26 PTA0, 27 PTC7, 28 PTC6

## MC9S08SH32xTG
designator *  value MC9S08SH32xTG  Reference: IC
8-bit General Purpose Microcontroller, S08 core, 32kB Flash, 1kB RAM, TSSOP-16; ki_keywords: NXP S08 Microcontroller; ki_fp_filters: TSSOP*4.4x5mm*P0.65mm*; Footprint: Package_SO:TSSOP-16_4.4x5mm_P0.65mm; Datasheet: https://www.nxp.com/docs/en/data-sheet/MC9S08SH32.pdf; Description_: 8-bit General Purpose Microcontroller, S08 core, 32kB Flash, 1kB RAM, TSSOP-16
pins: 1 PTA5/~{{RESET}}, 2 PTA4/BKGD/MS, 3 VDD, 4 VSS, 5 PTB7/EXTAL, 6 PTB6/XTAL, 7 PTB5, 8 PTB4, 9 PTB3, 10 PTB2, 11 PTB1, 12 PTB0, 13 PTA3, 14 PTA2, 15 PTA1, 16 PTA0

## MC9S08SH32xTJ
designator *  value MC9S08SH32xTJ  Reference: IC
8-bit General Purpose Microcontroller, S08 core, 32kB Flash, 1kB RAM, TSSOP-20; ki_keywords: NXP S08 Microcontroller; ki_fp_filters: TSSOP*4.4x6.5mm*P0.65mm*; Footprint: Package_SO:TSSOP-20_4.4x6.5mm_P0.65mm; Datasheet: https://www.nxp.com/docs/en/data-sheet/MC9S08SH32.pdf; Description_: 8-bit General Purpose Microcontroller, S08 core, 32kB Flash, 1kB RAM, TSSOP-20
pins: 1 PTA5/~{{RESET}}, 2 PTA4/BKGD/MS, 3 VDD, 4 VSS, 5 PTB7/EXTAL, 6 PTB6/XTAL, 7 PTB5, 8 PTB4, 9 PTC3, 10 PTC2, 11 PTC1, 12 PTC0, 13 PTB3, 14 PTB2, 15 PTB1, 16 PTB0, 17 PTA3, 18 PTA2, 19 PTA1, 20 PTA0

## MC9S08SH32xTL
designator *  value MC9S08SH32xTL  Reference: IC
8-bit General Purpose Microcontroller, S08 core, 32kB Flash, 1kB RAM, TSSOP-28; ki_keywords: NXP S08 Microcontroller; ki_fp_filters: TSSOP*4.4x9.7mm*P0.65mm*; Footprint: Package_SO:TSSOP-28_4.4x9.7mm_P0.65mm; Datasheet: https://www.nxp.com/docs/en/data-sheet/MC9S08SH32.pdf; Description_: 8-bit General Purpose Microcontroller, S08 core, 32kB Flash, 1kB RAM, TSSOP-28
pins: 1 PTC5, 2 PTC4, 3 PTA5/~{{RESET}}, 4 PTA4/BKGD/MS, 5 VDD, 6 VDDA/VREFH, 7 VSSA/VREFL, 8 VSS, 9 PTB7/EXTAL, 10 PTB6/XTAL, 11 PTB5, 12 PTB4, 13 PTC3, 14 PTC2, 15 PTC1, 16 PTC0, 17 PTB3, 18 PTB2, 19 PTB1, 20 PTB0, 21 PTA7, 22 PTA6, 23 PTA3, 24 PTA2, 25 PTA1, 26 PTA0, 27 PTC7, 28 PTC6

## MC9S08SH32xWL
designator *  value MC9S08SH32xWL  Reference: IC
8-bit General Purpose Microcontroller, S08 core, 32kB Flash, 1kB RAM, SOIC-28; ki_keywords: NXP S08 Microcontroller; ki_fp_filters: SOIC*7.5x17.9mm*P1.27mm*; Footprint: Package_SO:SOIC-28W_7.5x17.9mm_P1.27mm; Datasheet: https://www.nxp.com/docs/en/data-sheet/MC9S08SH32.pdf; Description_: 8-bit General Purpose Microcontroller, S08 core, 32kB Flash, 1kB RAM, SOIC-28
pins: 1 PTC5, 2 PTC4, 3 PTA5/~{{RESET}}, 4 PTA4/BKGD/MS, 5 VDD, 6 VDDA/VREFH, 7 VSSA/VREFL, 8 VSS, 9 PTB7/EXTAL, 10 PTB6/XTAL, 11 PTB5, 12 PTB4, 13 PTC3, 14 PTC2, 15 PTC1, 16 PTC0, 17 PTB3, 18 PTB2, 19 PTB1, 20 PTB0, 21 PTA7, 22 PTA6, 23 PTA3, 24 PTA2, 25 PTA1, 26 PTA0, 27 PTC7, 28 PTC6

## MC9S08SL16xTJ
designator *  value MC9S08SL16xTJ  Reference: IC
8-bit EEPROM with LIN Microcontroller, S08 core, 16kB Flash, 512B RAM, 256B EEPROM, TSSOP-20; ki_keywords: NXP S08 Microcontroller; ki_fp_filters: TSSOP*4.4x6.5mm*P0.65mm*; Footprint: Package_SO:TSSOP-20_4.4x6.5mm_P0.65mm; Datasheet: https://www.nxp.com/docs/en/data-sheet/MC9S08EL32.pdf; Description_: 8-bit EEPROM with LIN Microcontroller, S08 core, 16kB Flash, 512B RAM, 256B EEPROM, TSSOP-20
pins: 1 ~{{RESET}}, 2 BKGD/MS, 3 VDD, 4 VSS, 5 PTB7/EXTAL, 6 PTB6/XTAL, 7 PTB5, 8 PTB4, 9 PTC3, 10 PTC2, 11 PTC1, 12 PTC0, 13 PTB3, 14 PTB2, 15 PTB1, 16 PTB0, 17 PTA3, 18 PTA2, 19 PTA1, 20 PTA0

## MC9S08SL16xTL
designator *  value MC9S08SL16xTL  Reference: IC
8-bit EEPROM with LIN Microcontroller, S08 core, 16kB Flash, 512B RAM, 256B EEPROM, TSSOP-28; ki_keywords: NXP S08 Microcontroller; ki_fp_filters: TSSOP*4.4x9.7mm*P0.65mm*; Footprint: Package_SO:TSSOP-28_4.4x9.7mm_P0.65mm; Datasheet: https://www.nxp.com/docs/en/data-sheet/MC9S08EL32.pdf; Description_: 8-bit EEPROM with LIN Microcontroller, S08 core, 16kB Flash, 512B RAM, 256B EEPROM, TSSOP-28
pins: 1 PTC5, 2 PTC4, 3 ~{{RESET}}, 4 BKGD/MS, 5 VDD, 6 VDDA/VREFH, 7 VSSA/VREFL, 8 VSS, 9 PTB7/EXTAL, 10 PTB6/XTAL, 11 PTB5, 12 PTB4, 13 PTC3, 14 PTC2, 15 PTC1, 16 PTC0, 17 PTB3, 18 PTB2, 19 PTB1, 20 PTB0, 21 PTA7, 22 PTA6, 23 PTA3, 24 PTA2, 25 PTA1, 26 PTA0, 27 PTC7, 28 PTC6

## MC9S08SL32xTJ
designator *  value MC9S08SL32xTJ  Reference: IC
8-bit EEPROM with LIN Microcontroller, S08 core, 32kB Flash, 512B RAM, 256B EEPROM, TSSOP-20; ki_keywords: NXP S08 Microcontroller; ki_fp_filters: TSSOP*4.4x6.5mm*P0.65mm*; Footprint: Package_SO:TSSOP-20_4.4x6.5mm_P0.65mm; Datasheet: https://www.nxp.com/docs/en/data-sheet/MC9S08EL32.pdf; Description_: 8-bit EEPROM with LIN Microcontroller, S08 core, 32kB Flash, 512B RAM, 256B EEPROM, TSSOP-20
pins: 1 ~{{RESET}}, 2 BKGD/MS, 3 VDD, 4 VSS, 5 PTB7/EXTAL, 6 PTB6/XTAL, 7 PTB5, 8 PTB4, 9 PTC3, 10 PTC2, 11 PTC1, 12 PTC0, 13 PTB3, 14 PTB2, 15 PTB1, 16 PTB0, 17 PTA3, 18 PTA2, 19 PTA1, 20 PTA0

## MC9S08SL32xTL
designator *  value MC9S08SL32xTL  Reference: IC
8-bit EEPROM with LIN Microcontroller, S08 core, 32kB Flash, 512B RAM, 256B EEPROM, TSSOP-28; ki_keywords: NXP S08 Microcontroller; ki_fp_filters: TSSOP*4.4x9.7mm*P0.65mm*; Footprint: Package_SO:TSSOP-28_4.4x9.7mm_P0.65mm; Datasheet: https://www.nxp.com/docs/en/data-sheet/MC9S08EL32.pdf; Description_: 8-bit EEPROM with LIN Microcontroller, S08 core, 32kB Flash, 512B RAM, 256B EEPROM, TSSOP-28
pins: 1 PTC5, 2 PTC4, 3 ~{{RESET}}, 4 BKGD/MS, 5 VDD, 6 VDDA/VREFH, 7 VSSA/VREFL, 8 VSS, 9 PTB7/EXTAL, 10 PTB6/XTAL, 11 PTB5, 12 PTB4, 13 PTC3, 14 PTC2, 15 PTC1, 16 PTC0, 17 PTB3, 18 PTB2, 19 PTB1, 20 PTB0, 21 PTA7, 22 PTA6, 23 PTA3, 24 PTA2, 25 PTA1, 26 PTA0, 27 PTC7, 28 PTC6